# Altium schematic symbol library Miscellaneous Devices.SchLib: 236 symbols (part 1 of 2)
Pins are listed as number, name and electrical type; pins without a type are passive.

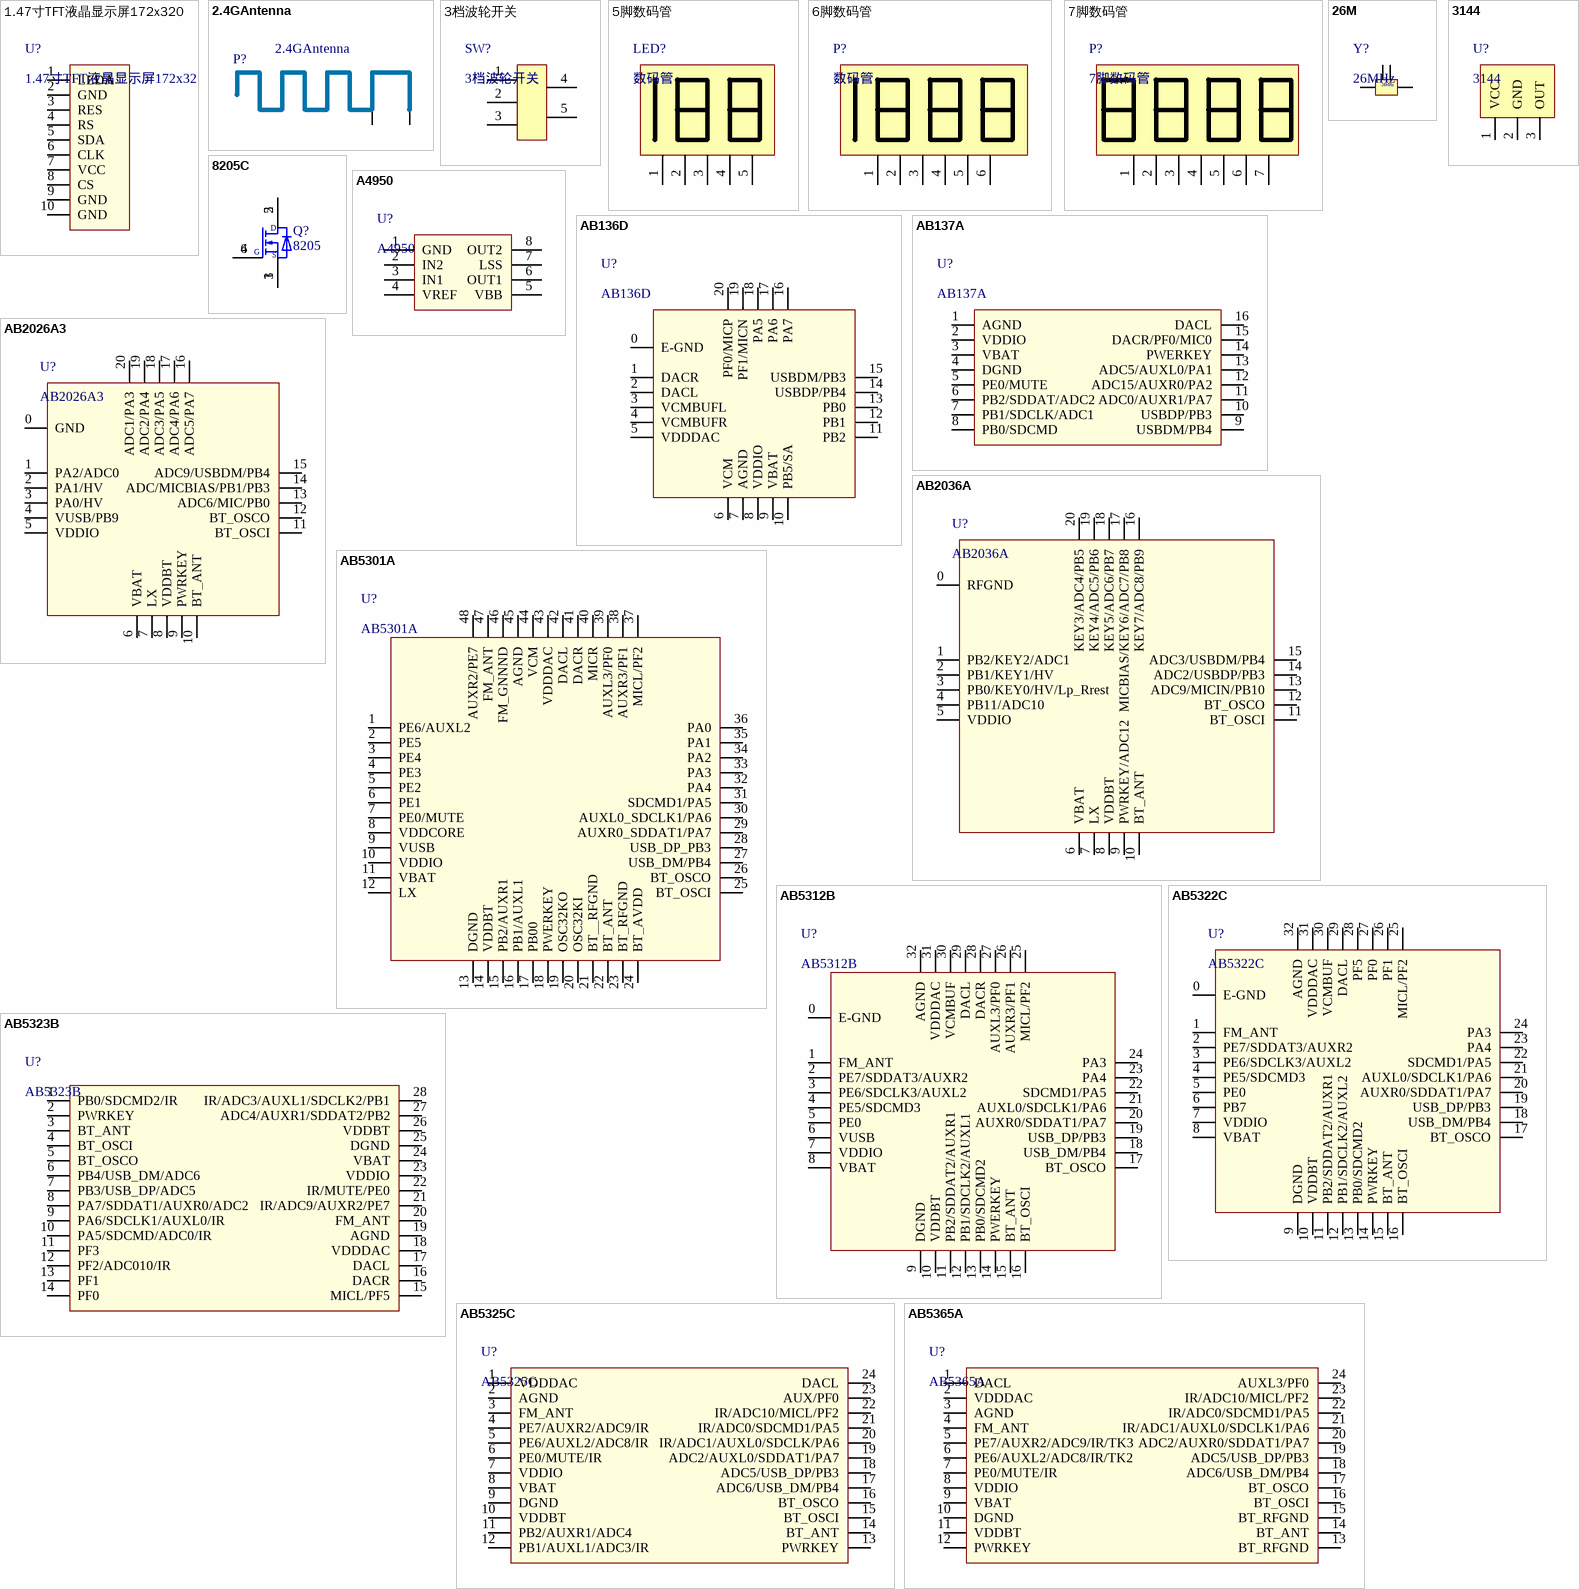
[diagram p0: symbols 1.47寸TFT液晶显示屏172x320 to AB5365A]

## 1.47寸TFT液晶显示屏172x320
designator U?
footprint 1.47寸TFT液晶显示屏172x320
pins: 1 LEDA, 2 GND, 3 RES, 4 RS, 5 SDA, 6 CLK, 7 VCC, 8 CS, 9 GND, 10 GND

## 2.4GAntenna
designator P?
footprint 2_4G_RF
footprint 2.4_ANT
footprint 2_4G_RF1
footprint 2_4G_RF_1
footprint 2.4_ANT_2
pins: 0, 1

## 3档波轮开关
designator SW?
footprint TM-2023
pins: 1, 2, 3, 4, 5

## 5脚数码管
designator LED?, comment 数码管
footprint YFTD2256SW-5
pins: 1, 2, 3, 4, 5

## 6脚数码管
designator P?, comment 数码管
footprint 6脚3PIN数码管
footprint 6PIN 数码管
pins: 1, 2, 3, 4, 5, 6

## 7脚数码管
designator P?
footprint 7PIN 数码管
pins: 1, 2, 3, 4, 5, 6, 7

## 26M
designator Y?, comment 26MHz
footprint SX-3225
footprint M49SSMD
footprint SMD-2520
pins: 1, 2, 3, 4

## 3144
designator U?
footprint TO-92UA
pins: 1 VCC, 2 GND, 3 OUT

## 8205C
designator Q?, comment 8205
footprint SOT23L-6P
pins: 1 S, 2 D, 3 S, 4 G, 5 D, 6 G

## A4950
designator U?
footprint SOP-8_150MIL
pins: 1 GND, 2 IN2, 3 IN1, 4 VREF, 5 VBB, 6 OUT1, 7 LSS, 8 OUT2

## AB136D
designator U?
footprint QFN20_3X3 (AB_BT)
pins: 0 E-GND, 1 DACR, 2 DACL, 3 VCMBUFL, 4 VCMBUFR, 5 VDDDAC, 6 VCM, 7 AGND, 8 VDDIO, 9 VBAT, 10 PB5/SA, 11 PB2, 12 PB1, 13 PB0, 14 USBDP/PB4, 15 USBDM/PB3, 16 PA7, 17 PA6, 18 PA5, 19 PF1/MICN, 20 PF0/MICP

## AB137A
designator U?
footprint SOP127P600X175-16N (SOP, 16-Leads, Body 9.90x3.90mm, Pitch 1.27mm, IPC Medium Density)
pins: 1 AGND, 2 VDDIO, 3 VBAT, 4 DGND, 5 PE0/MUTE, 6 PB2/SDDAT/ADC2, 7 PB1/SDCLK/ADC1, 8 PB0/SDCMD, 9 USBDM/PB4, 10 USBDP/PB3, 11 ADC0/AUXR1/PA7, 12 ADC15/AUXR0/PA2, 13 ADC5/AUXL0/PA1, 14 PWERKEY, 15 DACR/PF0/MIC0, 16 DACL

## AB2026A3
designator U?
footprint QFN20_3X3 (AB_BT)
pins: 0 GND, 1 PA2/ADC0, 2 PA1/HV, 3 PA0/HV, 4 VUSB/PB9, 5 VDDIO, 6 VBAT, 7 LX, 8 VDDBT, 9 PWRKEY, 10 BT_ANT, 11 BT_OSCI, 12 BT_OSCO, 13 ADC6/MIC/PB0, 14 ADC/MICBIAS/PB1/PB3, 15 ADC9/USBDM/PB4, 16 ADC5/PA7, 17 ADC4/PA6, 18 ADC3/PA5, 19 ADC2/PA4, 20 ADC1/PA3

## AB2036A
designator U?
footprint QFN20_3X3 (AB_BT)
pins: 0 RFGND, 1 PB2/KEY2/ADC1, 2 PB1/KEY1/HV, 3 PB0/KEY0/HV/Lp_Rrest, 4 PB11/ADC10, 5 VDDIO, 6 VBAT, 7 LX, 8 VDDBT, 9 PWRKEY/ADC12, 10 BT_ANT, 11 BT_OSCI, 12 BT_OSCO, 13 ADC9/MICIN/PB10, 14 ADC2/USBDP/PB3, 15 ADC3/USBDM/PB4, 16 KEY7/ADC8/PB9, 17 MICBIAS/KEY6/ADC7/PB8, 18 KEY5/ADC6/PB7, 19 KEY4/ADC5/PB6, 20 KEY3/ADC4/PB5

## AB5301A
designator U?
footprint LQFP48
pins: 1 PE6/AUXL2, 2 PE5, 3 PE4, 4 PE3, 5 PE2, 6 PE1, 7 PE0/MUTE, 8 VDDCORE, 9 VUSB, 10 VDDIO, 11 VBAT, 12 LX, 13 DGND, 14 VDDBT, 15 PB2/AUXR1, 16 PB1/AUXL1, 17 PB00, 18 PWERKEY, 19 OSC32KO, 20 OSC32KI, 21 BT__RFGND, 22 BT_ANT, 23 BT_RFGND, 24 BT_AVDD, 25 BT_OSCI, 26 BT_OSCO, 27 USB_DM/PB4, 28 USB_DP_PB3, 29 AUXR0_SDDAT1/PA7, 30 AUXL0_SDCLK1/PA6, 31 SDCMD1/PA5, 32 PA4, 33 PA3, 34 PA2, 35 PA1, 36 PA0, 37 MICL/PF2, 38 AUXR3/PF1, 39 AUXL3/PF0, 40 MICR, 41 DACR, 42 DACL, 43 VDDDAC, 44 VCM, 45 AGND, 46 FM_GNNND, 47 FM_ANT, 48 AUXR2/PE7

## AB5312B
designator U?
footprint QFN40P400X400X75_HS-33N (QFN, 32-Leads, Body 4.00x4.00mm, Pitch 0.40mm, Thermal Pad 2.80x2.80mm, IPC Medium Density)
pins: 0 E-GND, 1 FM_ANT, 2 PE7/SDDAT3/AUXR2, 3 PE6/SDCLK3/AUXL2, 4 PE5/SDCMD3, 5 PE0, 6 VUSB, 7 VDDIO, 8 VBAT, 9 DGND, 10 VDDBT, 11 PB2/SDDAT2/AUXR1, 12 PB1/SDCLK2/AUXL1, 13 PB0/SDCMD2, 14 PWERKEY, 15 BT_ANT, 16 BT_OSCI, 17 BT_OSCO, 18 USB_DM/PB4, 19 USB_DP/PB3, 20 AUXR0/SDDAT1/PA7, 21 AUXL0/SDCLK1/PA6, 22 SDCMD1/PA5, 23 PA4, 24 PA3, 25 MICL/PF2, 26 AUXR3/PF1, 27 AUXL3/PF0, 28 DACR, 29 DACL, 30 VCMBUF, 31 VDDDAC, 32 AGND

## AB5322C
designator U?
footprint QFN40P400X400X75_HS-33N (QFN, 32-Leads, Body 4.00x4.00mm, Pitch 0.40mm, Thermal Pad 2.80x2.80mm, IPC Medium Density)
pins: 0 E-GND, 1 FM_ANT, 2 PE7/SDDAT3/AUXR2, 3 PE6/SDCLK3/AUXL2, 4 PE5/SDCMD3, 5 PE0, 6 PB7, 7 VDDIO, 8 VBAT, 9 DGND, 10 VDDBT, 11 PB2/SDDAT2/AUXR1, 12 PB1/SDCLK2/AUXL2, 13 PB0/SDCMD2, 14 PWRKEY, 15 BT_ANT, 16 BT_OSCI, 17 BT_OSCO, 18 USB_DM/PB4, 19 USB_DP/PB3, 20 AUXR0/SDDAT1/PA7, 21 AUXL0/SDCLK1/PA6, 22 SDCMD1/PA5, 23 PA4, 24 PA3, 25 MICL/PF2, 26 PF1, 27 PF0, 28 PF5, 29 DACL, 30 VCMBUF, 31 VDDDAC, 32 AGND

## AB5323B
designator U?
footprint SSOP28L
pins: 1 PB0/SDCMD2/IR, 2 PWRKEY, 3 BT_ANT, 4 BT_OSCI, 5 BT_OSCO, 6 PB4/USB_DM/ADC6, 7 PB3/USB_DP/ADC5, 8 PA7/SDDAT1/AUXR0/ADC2, 9 PA6/SDCLK1/AUXL0/IR, 10 PA5/SDCMD/ADC0/IR, 11 PF3, 12 PF2/ADC010/IR, 13 PF1, 14 PF0, 15 MICL/PF5, 16 DACR, 17 DACL, 18 VDDDAC, 19 AGND, 20 FM_ANT, 21 IR/ADC9/AUXR2/PE7, 22 IR/MUTE/PE0, 23 VDDIO, 24 VBAT, 25 DGND, 26 VDDBT, 27 ADC4/AUXR1/SDDAT2/PB2, 28 IR/ADC3/AUXL1/SDCLK2/PB1

## AB5325C
designator U?
footprint SSOP24-150mil
pins: 1 VDDDAC, 2 AGND, 3 FM_ANT, 4 PE7/AUXR2/ADC9/IR, 5 PE6/AUXL2/ADC8/IR, 6 PE0/MUTE/IR, 7 VDDIO, 8 VBAT, 9 DGND, 10 VDDBT, 11 PB2/AUXR1/ADC4, 12 PB1/AUXL1/ADC3/IR, 13 PWRKEY, 14 BT_ANT, 15 BT_OSCI, 16 BT_OSCO, 17 ADC6/USB_DM/PB4, 18 ADC5/USB_DP/PB3, 19 ADC2/AUXL0/SDDAT1/PA7, 20 IR/ADC1/AUXL0/SDCLK/PA6, 21 IR/ADC0/SDCMD1/PA5, 22 IR/ADC10/MICL/PF2, 23 AUX/PF0, 24 DACL

## AB5365A
designator U?
footprint SSOP24L
pins: 1 DACL, 2 VDDDAC, 3 AGND, 4 FM_ANT, 5 PE7/AUXR2/ADC9/IR/TK3, 6 PE6/AUXL2/ADC8/IR/TK2, 7 PE0/MUTE/IR, 8 VDDIO, 9 VBAT, 10 DGND, 11 VDDBT, 12 PWRKEY, 13 BT_RFGND, 14 BT_ANT, 15 BT_RFGND, 16 BT_OSCI, 17 BT_OSCO, 18 ADC6/USB_DM/PB4, 19 ADC5/USB_DP/PB3, 20 ADC2/AUXR0/SDDAT1/PA7, 21 IR/ADC1/AUXL0/SDCLK1/PA6, 22 IR/ADC0/SDCMD1/PA5, 23 IR/ADC10/MICL/PF2, 24 AUXL3/PF0

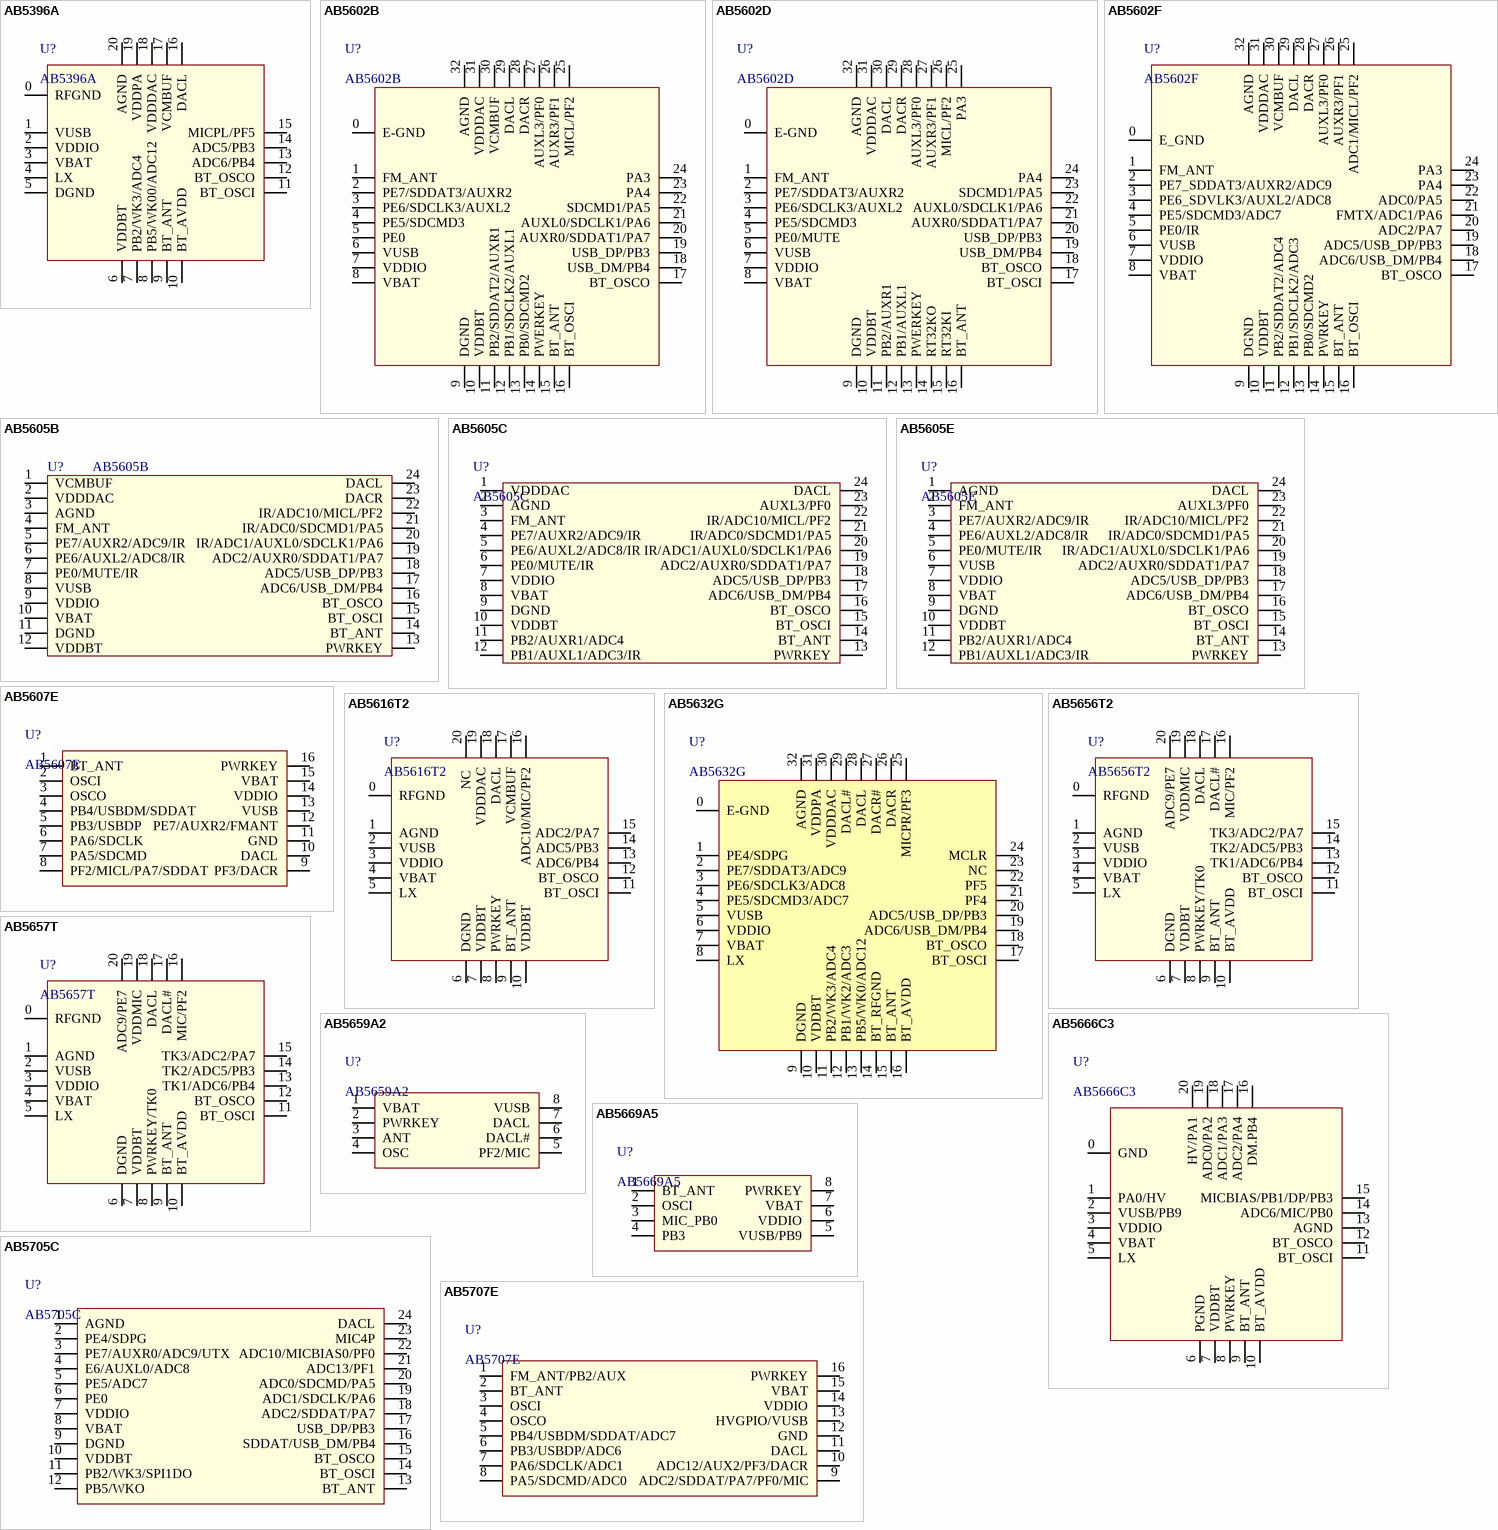
[diagram p1: symbols AB5396A to AB5707E]

## AB5396A
designator U?
footprint QFN20_3X3 (AB_BT)
pins: 0 RFGND, 1 VUSB, 2 VDDIO, 3 VBAT, 4 LX, 5 DGND, 6 VDDBT, 7 PB2/WK3/ADC4, 8 PB5/WK00/ADC12, 9 BT_ANT, 10 BT_AVDD, 11 BT_OSCI, 12 BT_OSCO, 13 ADC6/PB4, 14 ADC5/PB3, 15 MICPL/PF5, 16 DACL, 17 VCMBUF, 18 VDDDAC, 19 VDDPA, 20 AGND

## AB5602B
designator U?
footprint QFN40P400X400X75_HS-33N (QFN, 32-Leads, Body 4.00x4.00mm, Pitch 0.40mm, Thermal Pad 2.80x2.80mm, IPC Medium Density)
pins: 0 E-GND, 1 FM_ANT, 2 PE7/SDDAT3/AUXR2, 3 PE6/SDCLK3/AUXL2, 4 PE5/SDCMD3, 5 PE0, 6 VUSB, 7 VDDIO, 8 VBAT, 9 DGND, 10 VDDBT, 11 PB2/SDDAT2/AUXR1, 12 PB1/SDCLK2/AUXL1, 13 PB0/SDCMD2, 14 PWERKEY, 15 BT_ANT, 16 BT_OSCI, 17 BT_OSCO, 18 USB_DM/PB4, 19 USB_DP/PB3, 20 AUXR0/SDDAT1/PA7, 21 AUXL0/SDCLK1/PA6, 22 SDCMD1/PA5, 23 PA4, 24 PA3, 25 MICL/PF2, 26 AUXR3/PF1, 27 AUXL3/PF0, 28 DACR, 29 DACL, 30 VCMBUF, 31 VDDDAC, 32 AGND

## AB5602D
designator U?
footprint QFN40P400X400X75_HS-33N (QFN, 32-Leads, Body 4.00x4.00mm, Pitch 0.40mm, Thermal Pad 2.80x2.80mm, IPC Medium Density)
pins: 0 E-GND, 1 FM_ANT, 2 PE7/SDDAT3/AUXR2, 3 PE6/SDCLK3/AUXL2, 4 PE5/SDCMD3, 5 PE0/MUTE, 6 VUSB, 7 VDDIO, 8 VBAT, 9 DGND, 10 VDDBT, 11 PB2/AUXR1, 12 PB1/AUXL1, 13 PWERKEY, 14 RT32KO, 15 RT32KI, 16 BT_ANT, 17 BT_OSCI, 18 BT_OSCO, 19 USB_DM/PB4, 20 USB_DP/PB3, 21 AUXR0/SDDAT1/PA7, 22 AUXL0/SDCLK1/PA6, 23 SDCMD1/PA5, 24 PA4, 25 PA3, 26 MICL/PF2, 27 AUXR3/PF1, 28 AUXL3/PF0, 29 DACR, 30 DACL, 31 VDDDAC, 32 AGND

## AB5602F
designator U?
footprint QFN40P400X400X75_HS-33N (QFN, 32-Leads, Body 4.00x4.00mm, Pitch 0.40mm, Thermal Pad 2.80x2.80mm, IPC Medium Density)
pins: 0 E_GND, 1 FM_ANT, 2 PE7_SDDAT3/AUXR2/ADC9, 3 PE6_SDVLK3/AUXL2/ADC8, 4 PE5/SDCMD3/ADC7, 5 PE0/IR, 6 VUSB, 7 VDDIO, 8 VBAT, 9 DGND, 10 VDDBT, 11 PB2/SDDAT2/ADC4, 12 PB1/SDCLK2/ADC3, 13 PB0/SDCMD2, 14 PWRKEY, 15 BT_ANT, 16 BT_OSCI, 17 BT_OSCO, 18 ADC6/USB_DM/PB4, 19 ADC5/USB_DP/PB3, 20 ADC2/PA7, 21 FMTX/ADC1/PA6, 22 ADC0/PA5, 23 PA4, 24 PA3, 25 ADC1/MICL/PF2, 26 AUXR3/PF1, 27 AUXL3/PF0, 28 DACR, 29 DACL, 30 VCMBUF, 31 VDDDAC, 32 AGND

## AB5605B
designator U?
footprint SSOP24-150mil
pins: 1 VCMBUF, 2 VDDDAC, 3 AGND, 4 FM_ANT, 5 PE7/AUXR2/ADC9/IR, 6 PE6/AUXL2/ADC8/IR, 7 PE0/MUTE/IR, 8 VUSB, 9 VDDIO, 10 VBAT, 11 DGND, 12 VDDBT, 13 PWRKEY, 14 BT_ANT, 15 BT_OSCI, 16 BT_OSCO, 17 ADC6/USB_DM/PB4, 18 ADC5/USB_DP/PB3, 19 ADC2/AUXR0/SDDAT1/PA7, 20 IR/ADC1/AUXL0/SDCLK1/PA6, 21 IR/ADC0/SDCMD1/PA5, 22 IR/ADC10/MICL/PF2, 23 DACR, 24 DACL

## AB5605C
designator U?
footprint SSOP24-150mil
pins: 1 VDDDAC, 2 AGND, 3 FM_ANT, 4 PE7/AUXR2/ADC9/IR, 5 PE6/AUXL2/ADC8/IR, 6 PE0/MUTE/IR, 7 VDDIO, 8 VBAT, 9 DGND, 10 VDDBT, 11 PB2/AUXR1/ADC4, 12 PB1/AUXL1/ADC3/IR, 13 PWRKEY, 14 BT_ANT, 15 BT_OSCI, 16 BT_OSCO, 17 ADC6/USB_DM/PB4, 18 ADC5/USB_DP/PB3, 19 ADC2/AUXR0/SDDAT1/PA7, 20 IR/ADC1/AUXL0/SDCLK1/PA6, 21 IR/ADC0/SDCMD1/PA5, 22 IR/ADC10/MICL/PF2, 23 AUXL3/PF0, 24 DACL

## AB5605E
designator U?
footprint SSOP24-150mil
pins: 1 AGND, 2 FM_ANT, 3 PE7/AUXR2/ADC9/IR, 4 PE6/AUXL2/ADC8/IR, 5 PE0/MUTE/IR, 6 VUSB, 7 VDDIO, 8 VBAT, 9 DGND, 10 VDDBT, 11 PB2/AUXR1/ADC4, 12 PB1/AUXL1/ADC3/IR, 13 PWRKEY, 14 BT_ANT, 15 BT_OSCI, 16 BT_OSCO, 17 ADC6/USB_DM/PB4, 18 ADC5/USB_DP/PB3, 19 ADC2/AUXR0/SDDAT1/PA7, 20 IR/ADC1/AUXL0/SDCLK1/PA6, 21 IR/ADC0/SDCMD1/PA5, 22 IR/ADC10/MICL/PF2, 23 AUXL3/PF0, 24 DACL

## AB5607E
designator U?
footprint SOP127P600X175-16N (SOP, 16-Leads, Body 9.90x3.90mm, Pitch 1.27mm, IPC Medium Density)
pins: 1 BT_ANT, 2 OSCI, 3 OSCO, 4 PB4/USBDM/SDDAT, 5 PB3/USBDP, 6 PA6/SDCLK, 7 PA5/SDCMD, 8 PF2/MICL/PA7/SDDAT, 9 PF3/DACR, 10 DACL, 11 GND, 12 PE7/AUXR2/FMANT, 13 VUSB, 14 VDDIO, 15 VBAT, 16 PWRKEY

## AB5616T2
designator U?
footprint QFN20_3X3 (AB_BT)
pins: 0 RFGND, 1 AGND, 2 VUSB, 3 VDDIO, 4 VBAT, 5 LX, 6 DGND, 7 VDDBT, 8 PWRKEY, 9 BT_ANT, 10 VDDBT, 11 BT_OSCI, 12 BT_OSCO, 13 ADC6/PB4, 14 ADC5/PB3, 15 ADC2/PA7, 16 ADC10/MIC/PF2, 17 VCMBUF, 18 DACL, 19 VDDDAC, 20 NC 

## AB5632G
designator U?
footprint QFN40P400X400X75_HS-33N (QFN, 32-Leads, Body 4.00x4.00mm, Pitch 0.40mm, Thermal Pad 2.80x2.80mm, IPC Medium Density)
pins: 0 E-GND, 1 PE4/SDPG, 2 PE7/SDDAT3/ADC9, 3 PE6/SDCLK3/ADC8, 4 PE5/SDCMD3/ADC7, 5 VUSB, 6 VDDIO, 7 VBAT, 8 LX, 9 DGND, 10 VDDBT, 11 PB2/WK3/ADC4, 12 PB1/WK2/ADC3, 13 PB5/WK0/ADC12, 14 BT_RFGND, 15 BT_ANT, 16 BT_AVDD, 17 BT_OSCI, 18 BT_OSCO, 19 ADC6/USB_DM/PB4, 20 ADC5/USB_DP/PB3, 21 PF4, 22 PF5, 23 NC, 24 MCLR, 25 MICPR/PF3, 26 DACR, 27 DACR#, 28 DACL, 29 DACL#, 30 VDDDAC, 31 VDDPA, 32 AGND

## AB5656T2
designator U?
footprint QFN20_3X3 (AB_BT)
pins: 0 RFGND, 1 AGND, 2 VUSB, 3 VDDIO, 4 VBAT, 5 LX, 6 DGND, 7 VDDBT, 8 PWRKEY/TK0, 9 BT_ANT, 10 BT_AVDD, 11 BT_OSCI, 12 BT_OSCO, 13 TK1/ADC6/PB4, 14 TK2/ADC5/PB3, 15 TK3/ADC2/PA7, 16 MIC/PF2, 17 DACL#, 18 DACL, 19 VDDMIC, 20 ADC9/PE7

## AB5657T
designator U?
footprint QFN20_3X3 (AB_BT)
pins: 0 RFGND, 1 AGND, 2 VUSB, 3 VDDIO, 4 VBAT, 5 LX, 6 DGND, 7 VDDBT, 8 PWRKEY/TK0, 9 BT_ANT, 10 BT_AVDD, 11 BT_OSCI, 12 BT_OSCO, 13 TK1/ADC6/PB4, 14 TK2/ADC5/PB3, 15 TK3/ADC2/PA7, 16 MIC/PF2, 17 DACL#, 18 DACL, 19 VDDMIC, 20 ADC9/PE7

## AB5659A2
designator U?
footprint ESOP8L
pins: 1 VBAT, 2 PWRKEY, 3 ANT, 4 OSC, 5 PF2/MIC, 6 DACL#, 7 DACL, 8 VUSB

## AB5666C3
designator U?
footprint QFN20_3X3 (AB_BT)
pins: 0 GND, 1 PA0/HV, 2 VUSB/PB9, 3 VDDIO, 4 VBAT, 5 LX, 6 PGND, 7 VDDBT, 8 PWRKEY, 9 BT_ANT, 10 BT_AVDD, 11 BT_OSCI, 12 BT_OSCO, 13 AGND, 14 ADC6/MIC/PB0, 15 MICBIAS/PB1/DP/PB3, 16 DM.PB4, 17 ADC2/PA4, 18 ADC1/PA3, 19 ADC0/PA2, 20 HV/PA1

## AB5669A5
designator U?
footprint ESOP8L
pins: 1 BT_ANT, 2 OSCI, 3 MIC_PB0, 4 PB3, 5 VUSB/PB9, 6 VDDIO, 7 VBAT, 8 PWRKEY

## AB5705C
designator U?
footprint SSOP24-150mil
pins: 1 AGND, 2 PE4/SDPG, 3 PE7/AUXR0/ADC9/UTX, 4 E6/AUXL0/ADC8, 5 PE5/ADC7, 6 PE0, 7 VDDIO, 8 VBAT, 9 DGND, 10 VDDBT, 11 PB2/WK3/SPI1DO, 12 PB5/WKO, 13 BT_ANT, 14 BT_OSCI, 15 BT_OSCO, 16 SDDAT/USB_DM/PB4, 17 USB_DP/PB3, 18 ADC2/SDDAT/PA7, 19 ADC1/SDCLK/PA6, 20 ADC0/SDCMD/PA5, 21 ADC13/PF1, 22 ADC10/MICBIAS0/PF0, 23 MIC4P, 24 DACL

## AB5707E
designator U?
footprint SOP127P600X175-16N (SOP, 16-Leads, Body 9.90x3.90mm, Pitch 1.27mm, IPC Medium Density)
pins: 1 FM_ANT/PB2/AUX, 2 BT_ANT, 3 OSCI, 4 OSCO, 5 PB4/USBDM/SDDAT/ADC7, 6 PB3/USBDP/ADC6, 7 PA6/SDCLK/ADC1, 8 PA5/SDCMD/ADC0, 9 ADC2/SDDAT/PA7/PF0/MIC, 10 ADC12/AUX2/PF3/DACR, 11 DACL, 12 GND, 13 HVGPIO/VUSB, 14 VDDIO, 15 VBAT, 16 PWRKEY

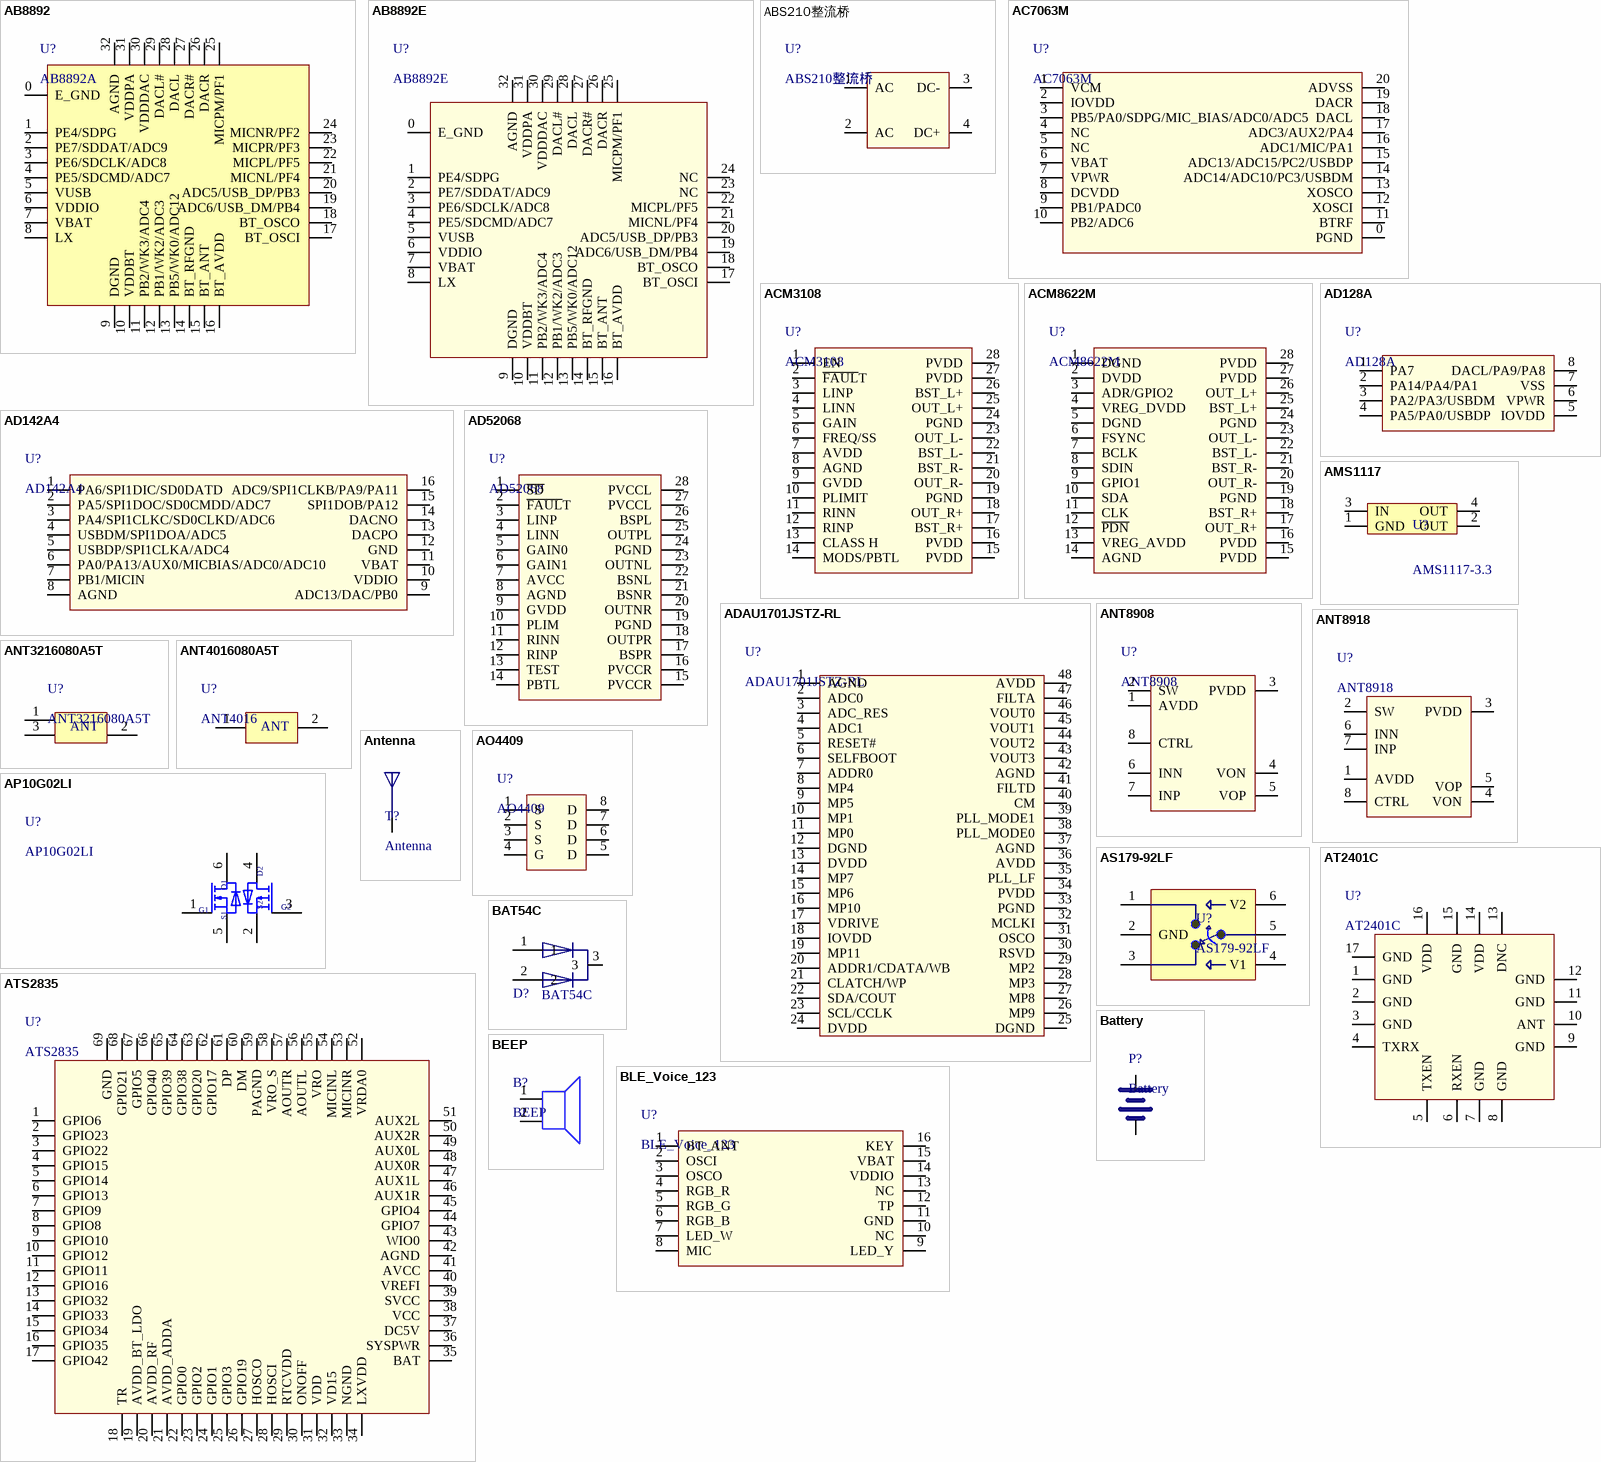
[diagram p2: symbols AB8892 to BLE_Voice_123]

## AB8892
designator U?, comment AB8892A
footprint QFN40P400X400X75_HS-33N (QFN, 32-Leads, Body 4.00x4.00mm, Pitch 0.40mm, Thermal Pad 2.80x2.80mm, IPC Medium Density)
pins: 0 E_GND, 1 PE4/SDPG, 2 PE7/SDDAT/ADC9, 3 PE6/SDCLK/ADC8, 4 PE5/SDCMD/ADC7, 5 VUSB, 6 VDDIO, 7 VBAT, 8 LX, 9 DGND, 10 VDDBT, 11 PB2/WK3/ADC4, 12 PB1/WK2/ADC3, 13 PB5/WK0/ADC12, 14 BT_RFGND, 15 BT_ANT, 16 BT_AVDD, 17 BT_OSCI, 18 BT_OSCO, 19 ADC6/USB_DM/PB4, 20 ADC5/USB_DP/PB3, 21 MICNL/PF4, 22 MICPL/PF5, 23 MICPR/PF3, 24 MICNR/PF2, 25 MICPM/PF1, 26 DACR, 27 DACR#, 28 DACL, 29 DACL#, 30 VDDDAC, 31 VDDPA, 32 AGND

## AB8892E
designator U?
footprint QFN40P400X400X75_HS-33N (QFN, 32-Leads, Body 4.00x4.00mm, Pitch 0.40mm, Thermal Pad 2.80x2.80mm, IPC Medium Density)
pins: 0 E_GND, 1 PE4/SDPG, 2 PE7/SDDAT/ADC9, 3 PE6/SDCLK/ADC8, 4 PE5/SDCMD/ADC7, 5 VUSB, 6 VDDIO, 7 VBAT, 8 LX, 9 DGND, 10 VDDBT, 11 PB2/WK3/ADC4, 12 PB1/WK2/ADC3, 13 PB5/WK0/ADC12, 14 BT_RFGND, 15 BT_ANT, 16 BT_AVDD, 17 BT_OSCI, 18 BT_OSCO, 19 ADC6/USB_DM/PB4, 20 ADC5/USB_DP/PB3, 21 MICNL/PF4, 22 MICPL/PF5, 23 NC, 24 NC, 25 MICPM/PF1, 26 DACR, 27 DACR#, 28 DACL, 29 DACL#, 30 VDDDAC, 31 VDDPA, 32 AGND

## ABS210整流桥
designator U?
footprint ABS210-SOP4
pins: 1 AC, 2 AC, 3 DC-, 4 DC+

## AC7063M
designator U?
footprint QFN20_3X3 (AB_BT)
pins: 0 PGND, 1 VCM, 2 IOVDD, 3 PB5/PA0/SDPG/MIC_BIAS/ADC0/ADC5, 4 NC, 5 NC, 6 VBAT, 7 VPWR, 8 DCVDD, 9 PB1/PADC0, 10 PB2/ADC6, 11 BTRF, 12 XOSCI, 13 XOSCO, 14 ADC14/ADC10/PC3/USBDM, 15 ADC13/ADC15/PC2/USBDP, 16 ADC1/MIC/PA1, 17 ADC3/AUX2/PA4, 18 DACL, 19 DACR, 20 ADVSS

## ACM3108
designator U?
footprint TSOP65P640X110_HS-29N (TSOP, 28-Leads, Body 9.70x4.40mm, Pitch 0.65mm, Thermal Pad 3.91x2.90mm, IPC Medium Density)
pins: 1 EN, 2 ~{FAUL}T, 3 LINP, 4 LINN, 5 GAIN, 6 FREQ/SS, 7 AVDD, 8 AGND, 9 GVDD, 10 PLIMIT, 11 RINN, 12 RINP, 13 CLASS H, 14 MODS/PBTL, 15 PVDD, 16 PVDD, 17 BST_R+, 18 OUT_R+, 19 PGND, 20 OUT_R-, 21 BST_R-, 22 BST_L-, 23 OUT_L-, 24 PGND, 25 OUT_L+, 26 BST_L+, 27 PVDD, 28 PVDD

## ACM8622M
designator U?
footprint TSOP65P640X110_HS-29N (TSOP, 28-Leads, Body 9.70x4.40mm, Pitch 0.65mm, Thermal Pad 3.91x2.90mm, IPC Medium Density)
pins: 1 DGND, 2 DVDD, 3 ADR/GPIO2, 4 VREG_DVDD, 5 DGND, 6 FSYNC, 7 BCLK, 8 SDIN, 9 GPIO1, 10 SDA, 11 CLK, 12 ~{PDN}, 13 VREG_AVDD, 14 AGND, 15 PVDD, 16 PVDD, 17 OUT_R+, 18 BST_R+, 19 PGND, 20 OUT_R-, 21 BST_R-, 22 BST_L-, 23 OUT_L-, 24 PGND, 25 BST_L+, 26 OUT_L+, 27 PVDD, 28 PVDD

## AD128A
designator U?
footprint SOP-8_150MIL
pins: 1 PA7, 2 PA14/PA4/PA1, 3 PA2/PA3/USBDM, 4 PA5/PA0/USBDP, 5 IOVDD, 6 VPWR, 7 VSS, 8 DACL/PA9/PA8

## AD142A4
designator U?
footprint SOP127P600X175-16N (SOP, 16-Leads, Body 9.90x3.90mm, Pitch 1.27mm, IPC Medium Density)
footprint OTS16-1.27Burn-in Socket
pins: 1 PA6/SPI1DIC/SD0DATD, 2 PA5/SPI1DOC/SD0CMDD/ADC7, 3 PA4/SPI1CLKC/SD0CLKD/ADC6, 4 USBDM/SPI1DOA/ADC5, 5 USBDP/SPI1CLKA/ADC4, 6 PA0/PA13/AUX0/MICBIAS/ADC0/ADC10, 7 PB1/MICIN, 8 AGND, 9 ADC13/DAC/PB0, 10 VDDIO, 11 VBAT, 12 GND, 13 DACPO, 14 DACNO, 15 SPI1DOB/PA12, 16 ADC9/SPI1CLKB/PA9/PA11

## AD52068
designator U?
footprint TSOP65P640X120_HS-29N (TSOP, 28-Leads, Body 9.70x4.40mm, Pitch 0.65mm, Thermal Pad 5.25x2.98mm, IPC Medium Density)
pins: 1 ~{SD}, 2 ~{FAUL}T, 3 LINP, 4 LINN, 5 GAIN0, 6 GAIN1, 7 AVCC, 8 AGND, 9 GVDD, 10 PLIM, 11 RINN, 12 RINP, 13 TEST, 14 PBTL, 15 PVCCR, 16 PVCCR, 17 BSPR, 18 OUTPR, 19 PGND, 20 OUTNR, 21 BSNR, 22 BSNL, 23 OUTNL, 24 PGND, 25 OUTPL, 26 BSPL, 27 PVCCL, 28 PVCCL

## ADAU1701JSTZ-RL
designator U?
footprint LQFP48
pins: 1 AGND, 2 ADC0, 3 ADC_RES, 4 ADC1, 5 RESET#, 6 SELFBOOT, 7 ADDR0, 8 MP4, 9 MP5, 10 MP1, 11 MP0, 12 DGND, 13 DVDD, 14 MP7, 15 MP6, 16 MP10, 17 VDRIVE, 18 IOVDD, 19 MP11, 20 ADDR1/CDATA/WB, 21 CLATCH/WP, 22 SDA/COUT, 23 SCL/CCLK, 24 DVDD, 25 DGND, 26 MP9, 27 MP8, 28 MP3, 29 MP2, 30 RSVD, 31 OSCO, 32 MCLKI, 33 PGND, 34 PVDD, 35 PLL_LF, 36 AVDD, 37 AGND, 38 PLL_MODE0, 39 PLL_MODE1, 40 CM, 41 FILTD, 42 AGND, 43 VOUT3, 44 VOUT2, 45 VOUT1, 46 VOUT0, 47 FILTA, 48 AVDD

## AMS1117
designator U?, comment AMS1117-3.3
footprint SOT-223
pins: 1 GND, 2 OUT, 3 IN, 4 OUT

## ANT8908
designator U?
footprint ESOP8L
pins: 1 AVDD, 2 SW, 3 PVDD, 4 VON, 5 VOP, 6 INN, 7 INP, 8 CTRL

## ANT8918
designator U?
footprint ESOP8L
pins: 1 AVDD, 2 SW, 3 PVDD, 4 VON, 5 VOP, 6 INN, 7 INP, 8 CTRL

## ANT3216080A5T
designator U?
footprint ANT_3P_2012_2.05X1.23X0.45MM
pins: 1, 2, 3
text: ANT

## ANT4016080A5T
designator U?, comment ANT4016
footprint 4018Chip Antenna
pins: 1, 2
text: ANT

## Antenna
designator T?
footprint EIPEX3*3*1.25MM
pins: 1

## AO4409
designator U?
footprint SOP-8_150MIL
pins: 1 S, 2 S, 3 S, 4 G, 5 D, 6 D, 7 D, 8 D

## AP10G02LI
designator U?
footprint SOT23L-6P
pins: 1 G1, 2 S2, 3 G, 4 D, 5 S, 6 D
text: D1; D2; S1; G2

## AS179-92LF
designator U?
footprint SOT65P220X95-6N
pins: 1, 2 GND, 3, 4 V1, 5, 6 V2

## AT2401C
designator U?
footprint QFN50P300X300X75_HS-17N (QFN, 16-Leads, Body 3.00x3.00mm, Pitch 0.50mm, Thermal Pad 1.70x1.70mm, IPC Medium Density)
pins: 1 GND, 2 GND, 3 GND, 4 TXRX, 5 TXEN, 6 RXEN, 7 GND, 8 GND, 9 GND, 10 ANT, 11 GND, 12 GND, 13 DNC, 14 VDD, 15 GND, 16 VDD, 17 GND

## ATS2835
designator U?
footprint QFN40P800X800X85_HS-69N (QFN, 68-Leads, Body 8.00x8.00mm, Pitch 0.40mm, Thermal Pad 5.39x5.39mm, IPC Medium Density)
pins: 1 GPIO6, 2 GPIO23, 3 GPIO22, 4 GPIO15, 5 GPIO14, 6 GPIO13, 7 GPIO9, 8 GPIO8, 9 GPIO10, 10 GPIO12, 11 GPIO11, 12 GPIO16, 13 GPIO32, 14 GPIO33, 15 GPIO34, 16 GPIO35, 17 GPIO42, 18 TR, 19 AVDD_BT_LDO, 20 AVDD_RF, 21 AVDD_ADDA, 22 GPIO0, 23 GPIO2, 24 GPIO1, 25 GPIO3, 26 GPIO19, 27 HOSCO, 28 HOSCI, 29 RTCVDD, 30 ONOFF, 31 VDD, 32 VD15, 33 NGND, 34 LXVDD, 35 BAT, 36 SYSPWR, 37 DC5V, 38 VCC, 39 SVCC, 40 VREFI, 41 AVCC, 42 AGND, 43 WIO0, 44 GPIO7, 45 GPIO4, 46 AUX1R, 47 AUX1L, 48 AUX0R, 49 AUX0L, 50 AUX2R, 51 AUX2L, 52 VRDA0, 53 MICINR, 54 MICINL, 55 VRO, 56 AOUTL, 57 AOUTR, 58 VRO_S, 59 PAGND, 60 DM, 61 DP, 62 GPIO17, 63 GPIO20, 64 GPIO38, 65 GPIO39, 66 GPIO40, 67 GPIO5, 68 GPIO21, 69 GND

## BAT54C
designator D?
footprint SOT-23
pins: 1, 2, 3

## Battery
designator P?
footprint CR1220
footprint CR2032
pins: 1, 2

## BEEP
designator B?
footprint BEEP(R7H5)
footprint BEEP(4R5H6)
pins: 1, 2

## BLE_Voice_123
designator U?
footprint SOP127P600X175-16N (SOP, 16-Leads, Body 9.90x3.90mm, Pitch 1.27mm, IPC Medium Density)
pins: 1 BT_ANT, 2 OSCI, 3 OSCO, 4 RGB_R, 5 RGB_G, 6 RGB_B, 7 LED_W, 8 MIC, 9 LED_Y, 10 NC, 11 GND, 12 TP, 13 NC, 14 VDDIO, 15 VBAT, 16 KEY

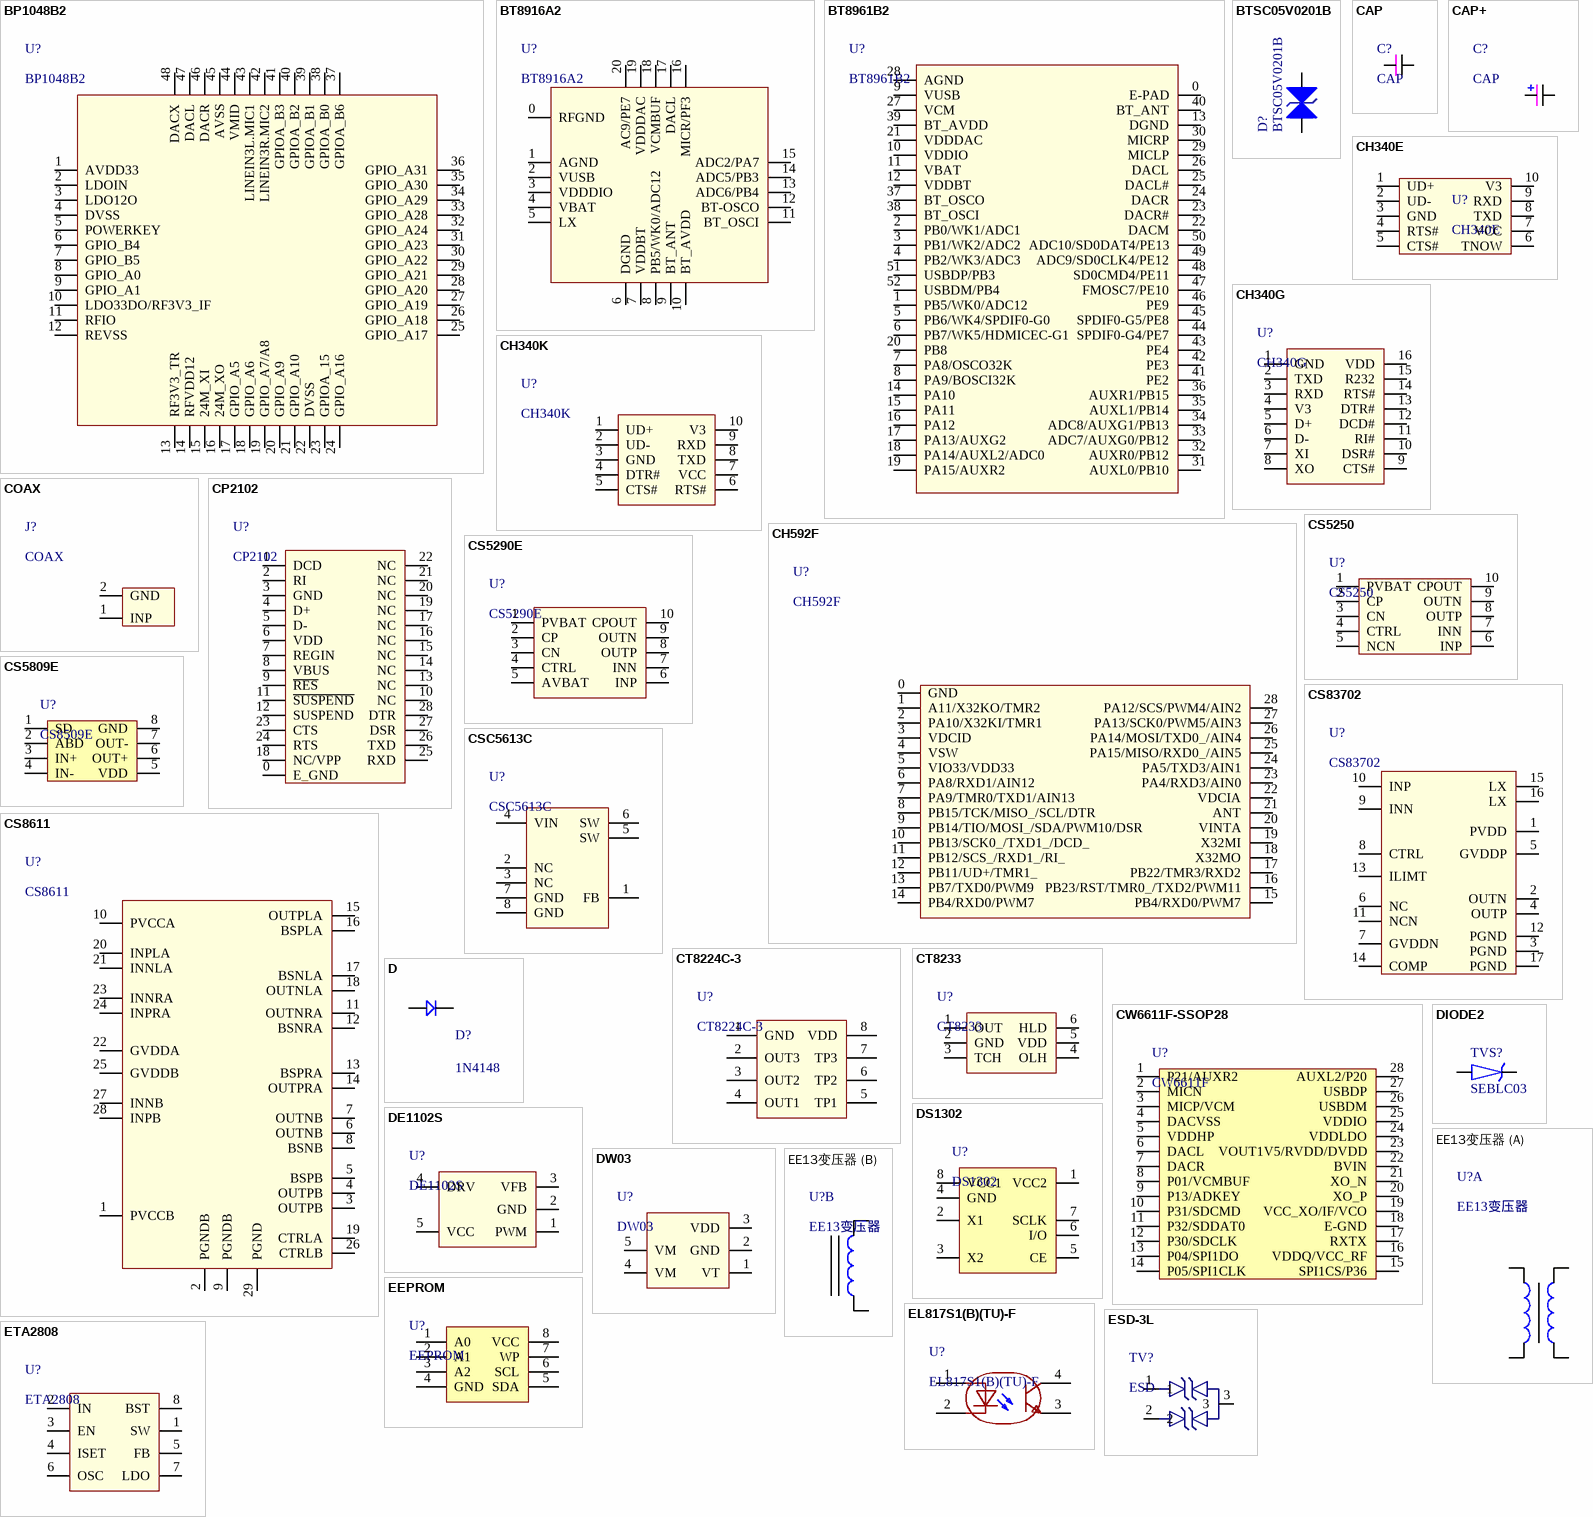
[diagram p3: symbols BP1048B2 to ETA2808]

## BP1048B2
designator U?
footprint LQFP48
pins: 1 AVDD33, 2 LDOIN, 3 LDO12O, 4 DVSS, 5 POWERKEY, 6 GPIO_B4, 7 GPIO_B5, 8 GPIO_A0, 9 GPIO_A1, 10 LDO33DO/RF3V3_IF, 11 RFIO, 12 REVSS, 13 RF3V3_TR, 14 RFVDD12, 15 24M_XI, 16 24M_XO, 17 GPIO_A5, 18 GPIO_A6, 19 GPIO_A7/A8, 20 GPIO_A9, 21 GPIO_A10, 22 DVSS, 23 GPIOA_15, 24 GPIO_A16, 25 GPIO_A17, 26 GPIO_A18, 27 GPIO_A19, 28 GPIO_A20, 29 GPIO_A21, 30 GPIO_A22, 31 GPIO_A23, 32 GPIO_A24, 33 GPIO_A28, 34 GPIO_A29, 35 GPIO_A30, 36 GPIO_A31, 37 GPIOA_B6, 38 GPIOA_B0, 39 GPIOA_B1, 40 GPIOA_B2, 41 GPIOA_B3, 42 LINEIN3R.MIC2, 43 LINEIN3L.MIC1, 44 VMID, 45 AVSS, 46 DACR, 47 DACL, 48 DACX

## BT8916A2
designator U?
footprint QFN20_3X3 (AB_BT)
pins: 0 RFGND, 1 AGND, 2 VUSB, 3 VDDDIO, 4 VBAT, 5 LX, 6 DGND, 7 VDDBT, 8 PB5/WK0/ADC12, 9 BT_ANT, 10 BT_AVDD, 11 BT_OSCI, 12 BT-OSCO, 13 ADC6/PB4, 14 ADC5/PB3, 15 ADC2/PA7, 16 MICR/PF3, 17 DACL, 18 VCMBUF, 19 VDDDAC, 20 AC9/PE7

## BT8961B2
designator U?
footprint QFN40P600X600X75_HS-53N (QFN, 52-Leads, Body 6.00x6.00mm, Pitch 0.40mm, Thermal Pad 4.50x4.50mm, IPC Medium Density)
pins: 0 E-PAD, 1 PB5/WK0/ADC12, 2 PB0/WK1/ADC1, 3 PB1/WK2/ADC2, 4 PB2/WK3/ADC3, 5 PB6/WK4/SPDIF0-G0, 6 PB7/WK5/HDMICEC-G1, 7 PA8/OSCO32K, 8 PA9/BOSCI32K, 9 VUSB, 10 VDDIO, 11 VBAT, 12 VDDBT, 13 DGND, 14 PA10, 15 PA11, 16 PA12, 17 PA13/AUXG2, 18 PA14/AUXL2/ADC0, 19 PA15/AUXR2, 20 PB8, 21 VDDDAC, 22 DACM, 23 DACR#, 24 DACR, 25 DACL#, 26 DACL, 27 VCM, 28 AGND, 29 MICLP, 30 MICRP, 31 AUXL0/PB10, 32 AUXR0/PB12, 33 ADC7/AUXG0/PB12, 34 ADC8/AUXG1/PB13, 35 AUXL1/PB14, 36 AUXR1/PB15, 37 BT_OSCO, 38 BT_OSCI, 39 BT_AVDD, 40 BT_ANT, 41 PE2, 42 PE3, 43 PE4, 44 SPDIF0-G4/PE7, 45 SPDIF0-G5/PE8, 46 PE9, 47 FMOSC7/PE10, 48 SD0CMD4/PE11, 49 ADC9/SD0CLK4/PE12, 50 ADC10/SD0DAT4/PE13, 51 USBDP/PB3, 52 USBDM/PB4

## BTSC05V0201B
designator D?
footprint BTSC05V0201B
pins: 1, 2

## CAP
designator C?
footprint C0603
footprint C0805B
footprint C0402
footprint C0201
footprint CAPJ100-7*5*10
footprint C1206
footprint 瓷片电容
pins: 1 "C?", 2 "C?"

## CAP+
designator C?, comment CAP
footprint CAP2.54
footprint CAP-6.3*7*7
footprint CAP-R2.7-H8
footprint CAP-R10-H16
footprint CAP3.5-R4-H12.5
footprint SMD,8x10.5mm
footprint CAP3.0-R4.1-H12.5
footprint SMD-D4xL5.8mm
footprint CAP_L6.5XH8-R
footprint CAP_L6.5XH8
footprint CAP-6.3*7*7-贴插一体
footprint EKMG250ELL220ME11D
pins: 1 "C?", 2 "C?"

## CH340E
designator U?
footprint MSOP-10
pins: 1 UD+, 2 UD-, 3 GND, 4 RTS#, 5 CTS#, 6 TNOW, 7 VCC, 8 TXD, 9 RXD, 10 V3

## CH340G
designator U?
footprint SOP16M
pins: 1 GND, 2 TXD, 3 RXD, 4 V3, 5 D+, 6 D-, 7 XI, 8 XO, 9 CTS#, 10 DSR#, 11 RI#, 12 DCD#, 13 DTR#, 14 RTS#, 15 R232, 16 VDD

## CH340K
designator U?
footprint ESOP-10L
pins: 1 UD+, 2 UD-, 3 GND, 4 DTR#, 5 CTS#, 6 RTS#, 7 VCC, 8 TXD, 9 RXD, 10 V3

## CH592F
designator U?
footprint QFN40P400X400X75_HS-29N (QFN, 28-Leads, Body 4.00x4.00mm, Pitch 0.40mm, Thermal Pad 2.80x2.80mm, IPC Medium Density)
pins: 0 GND, 1 A11/X32KO/TMR2, 2 PA10/X32KI/TMR1, 3 VDCID, 4 VSW, 5 VIO33/VDD33, 6 PA8/RXD1/AIN12, 7 PA9/TMR0/TXD1/AIN13, 8 PB15/TCK/MISO_/SCL/DTR, 9 PB14/TIO/MOSI_/SDA/PWM10/DSR, 10 PB13/SCK0_/TXD1_/DCD_, 11 PB12/SCS_/RXD1_/RI_, 12 PB11/UD+/TMR1_, 13 PB7/TXD0/PWM9, 14 PB4/RXD0/PWM7, 15 PB4/RXD0/PWM7, 16 PB23/RST/TMR0_/TXD2/PWM11, 17 PB22/TMR3/RXD2, 18 X32MO, 19 X32MI, 20 VINTA, 21 ANT, 22 VDCIA, 23 PA4/RXD3/AIN0, 24 PA5/TXD3/AIN1, 25 PA15/MISO/RXD0_/AIN5, 26 PA14/MOSI/TXD0_/AIN4, 27 PA13/SCK0/PWM5/AIN3, 28 PA12/SCS/PWM4/AIN2

## COAX
designator J?
footprint RCA座-AV1-8.4-5
pins: 1 INP, 2 GND

## CP2102
designator U?
footprint PQFN50P500X500X90_HS-29N (PQFN, 28-Leads, Body 5.00x5.00mm, Pitch 0.50mm, Thermal Pad 3.13x3.13mm, IPC Medium Density)
pins: 0 E_GND, 1 DCD, 2 RI, 3 GND, 4 D+, 5 D-, 6 VDD, 7 REGIN, 8 VBUS, 9 ~{RES}, 10 NC, 11 ~{SUSPEND}, 12 SUSPEND, 13 NC, 14 NC, 15 NC, 16 NC, 17 NC, 18 NC/VPP, 19 NC, 20 NC, 21 NC, 22 NC, 23 CTS, 24 RTS, 25 RXD, 26 TXD, 27 DSR, 28 DTR

## CS5250
designator U?
footprint ESOP-10L
pins: 1 PVBAT, 2 CP, 3 CN, 4 CTRL, 5 NCN, 6 INP, 7 INN, 8 OUTP, 9 OUTN, 10 CPOUT

## CS5290E
designator U?
footprint ESOP-10L
pins: 1 PVBAT, 2 CP, 3 CN, 4 CTRL, 5 AVBAT, 6 INP, 7 INN, 8 OUTP, 9 OUTN, 10 CPOUT

## CS5809E
designator U?, comment CS8509E
footprint ESOP8L
pins: 1 SD, 2 ABD, 3 IN+, 4 IN-, 5 VDD, 6 OUT+, 7 OUT-, 8 GND

## CS8611
designator U?
footprint ESSOP-28
pins: 1 PVCCB, 2 PGNDB, 3 OUTPB, 4 OUTPB, 5 BSPB, 6 OUTNB, 7 OUTNB, 8 BSNB, 9 PGNDB, 10 PVCCA, 11 OUTNRA, 12 BSNRA, 13 BSPRA, 14 OUTPRA, 15 OUTPLA, 16 BSPLA, 17 BSNLA, 18 OUTNLA, 19 CTRLA, 20 INPLA, 21 INNLA, 22 GVDDA, 23 INNRA, 24 INPRA, 25 GVDDB, 26 CTRLB, 27 INNB, 28 INPB, 29 PGND

## CS83702
designator U?
footprint TSOP64P620X140_HS-17N (TSOP, 16-Leads, Body 4.90x3.92mm, Pitch 0.64mm, Thermal Pad 3.70x2.40mm, IPC Medium Density)
pins: 1 PVDD, 2 OUTN, 3 PGND, 4 OUTP, 5 GVDDP, 6 NC, 7 GVDDN, 8 CTRL, 9 INN, 10 INP, 11 NCN, 12 PGND, 13 ILIMT, 14 COMP, 15 LX, 16 LX, 17 PGND

## CSC5613C
designator U?
footprint SOP-8_150MIL
pins: 1 FB, 2 NC, 3 NC, 4 VIN, 5 SW, 6 SW, 7 GND, 8 GND

## CT8224C-3
designator U?
footprint SOP-8_150MIL
pins: 1 GND, 2 OUT3, 3 OUT2, 4 OUT1, 5 TP1, 6 TP2, 7 TP3, 8 VDD

## CT8233
designator U?
footprint SOT23L-6P
pins: 1 OUT, 2 GND, 3 TCH, 4 OLH, 5 VDD, 6 HLD

## CW6611F-SSOP28
designator U?, comment CW6611F
footprint SOP65P780X200-28N (SOP, 28-Leads, Body 10.20x5.30mm, Pitch 0.65mm, IPC Medium Density)
pins: 1 P21/AUXR2, 2 MICN, 3 MICP/VCM, 4 DACVSS, 5 VDDHP, 6 DACL, 7 DACR, 8 P01/VCMBUF, 9 P13/ADKEY, 10 P31/SDCMD, 11 P32/SDDAT0, 12 P30/SDCLK, 13 P04/SPI1DO, 14 P05/SPI1CLK, 15 SPI1CS/P36, 16 VDDQ/VCC_RF, 17 RXTX, 18 E-GND, 19 VCC_XO/IF/VCO, 20 XO_P, 21 XO_N, 22 BVIN, 23 VOUT1V5/RVDD/DVDD, 24 VDDLDO, 25 VDDIO, 26 USBDM, 27 USBDP, 28 AUXL2/P20

## D
designator D?, comment 1N4148
footprint DO-214AC
footprint SOD-323
footprint SOD-123FL
footprint SOD-80
pins: 1, 2

## DE1102S
designator U?
footprint SOT89-5L
pins: 1 PWM, 2 GND, 3 VFB, 4 DRV, 5 VCC

## DIODE2
designator TVS?, comment SEBLC03
footprint SOD-323
pins: 1, 2

## DS1302
designator U?
footprint SOP-8_150MIL
pins: 1 VCC2, 2 X1, 3 X2, 4 GND, 5 CE, 6 I/O, 7 SCLK, 8 VCC1

## DW03
designator U?
footprint SOT-23-5
pins: 1 VT, 2 GND, 3 VDD, 4 VM, 5 VM

## EE13变压器
designator U?
footprint EE13-T304
part A pins: 1, 2, 6, 10
part B pins: 4, 5

## EEPROM
designator U?
footprint SOP-8_150MIL
pins: 1 A0, 2 A1, 3 A2, 4 GND, 5 SDA, 6 SCL, 7 WP, 8 VCC

## EL817S1(B)(TU)-F
designator U?
footprint SOP-4_L6.5-W4.6-P2.54-LS10.2-TL
pins: 1 AN, 2 CAT, 3 EM, 4 COL

## ESD-3L
designator TV?, comment ESD
footprint DFN1006-3
pins: 1, 2, 3

## ETA2808
designator U?
footprint ESOP8L
pins: 1 SW, 2 IN, 3 EN, 4 ISET, 5 FB, 6 OSC, 7 LDO, 8 BST

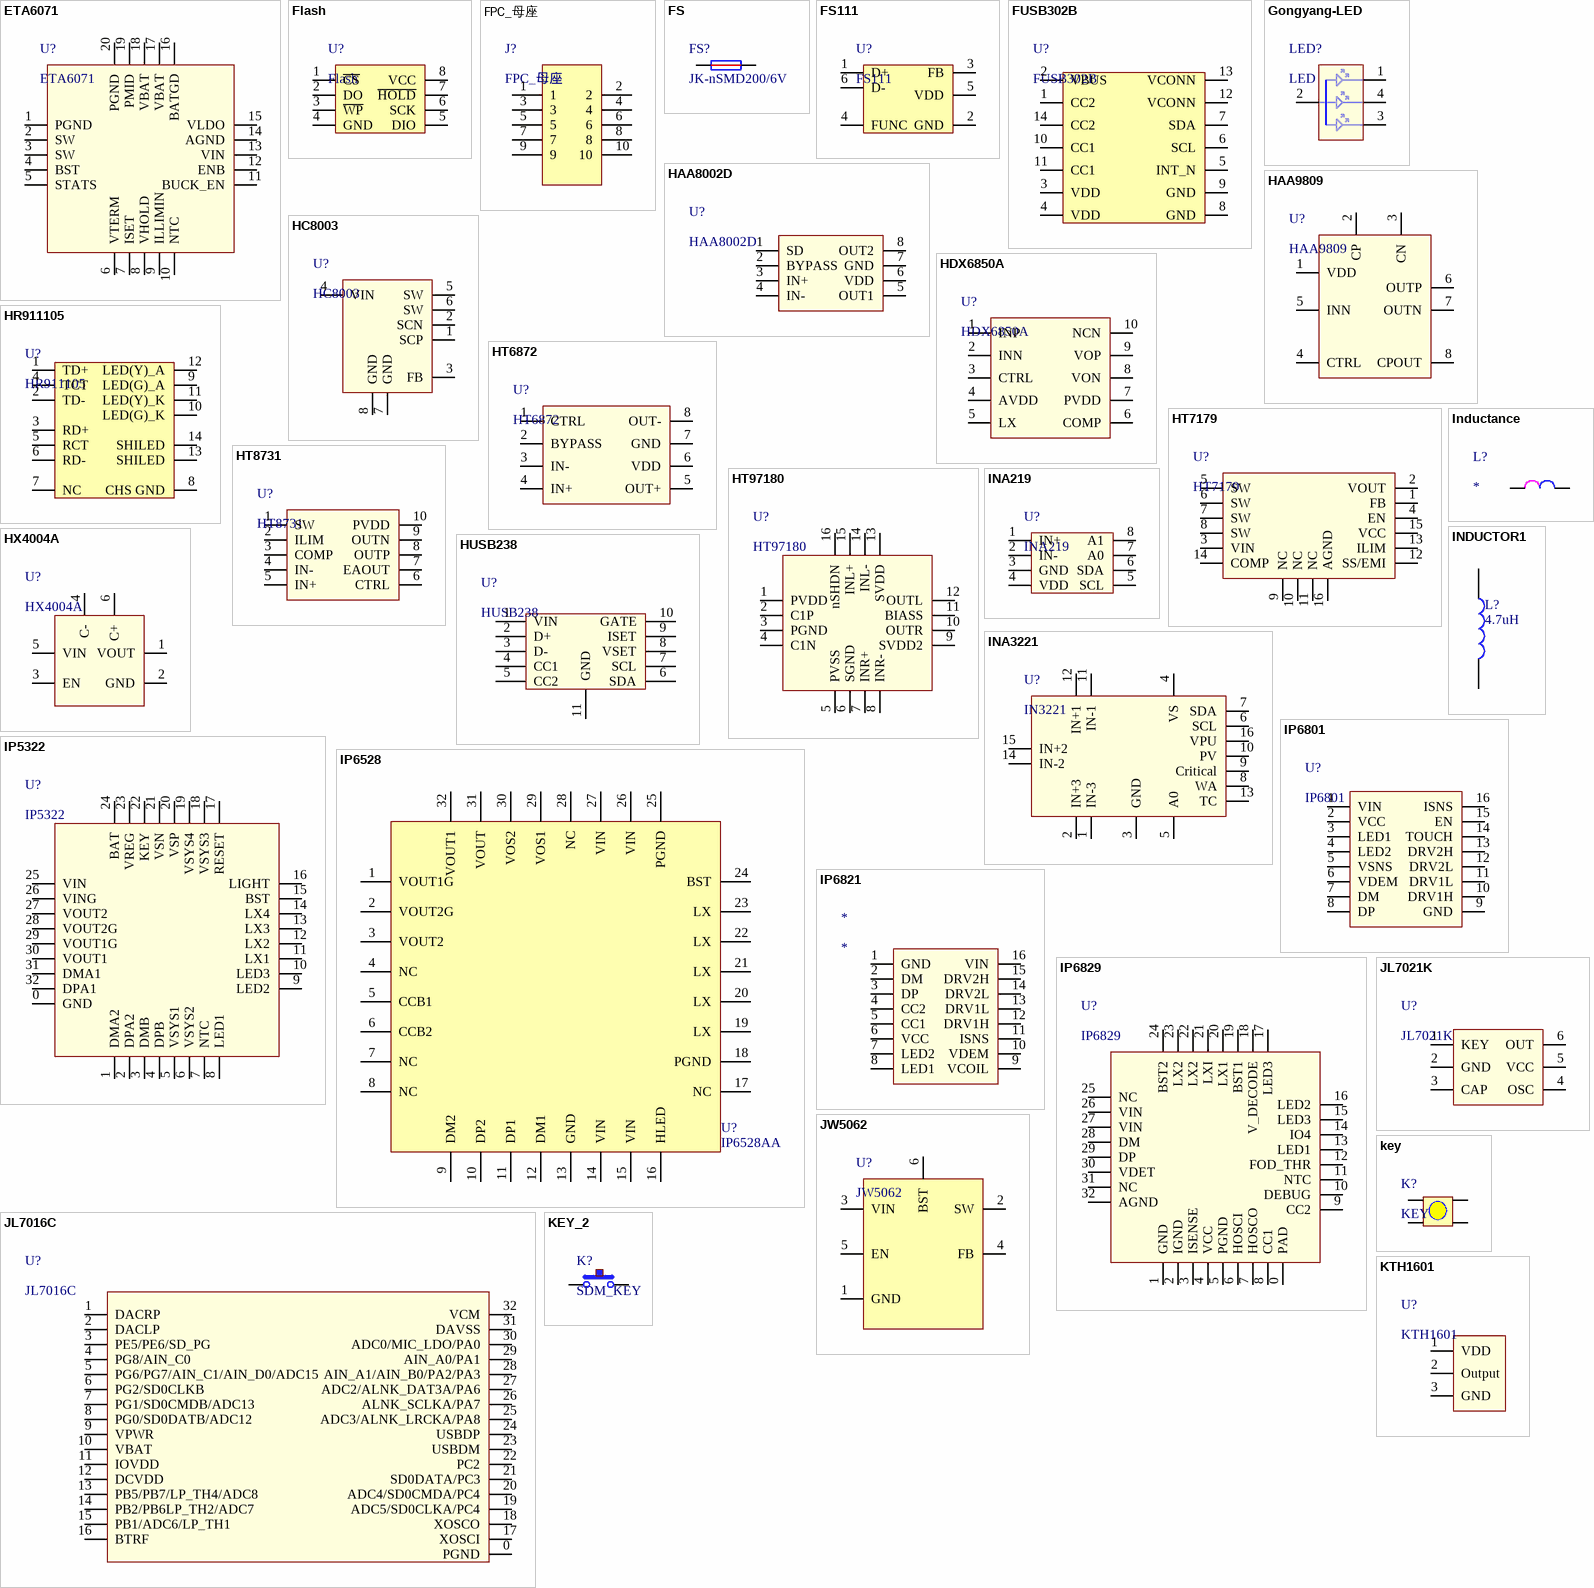
[diagram p4: symbols ETA6071 to KTH1601]

## ETA6071
designator U?
footprint QFN20_3X3 (AB_BT)
pins: 1 PGND, 2 SW, 3 SW, 4 BST, 5 STATS, 6 VTERM, 7 ISET, 8 VHOLD, 9 ILLIMIN, 10 NTC, 11 BUCK_EN, 12 ENB, 13 VIN, 14 AGND, 15 VLDO, 16 BATGD, 17 VBAT, 18 VBAT, 19 PMID, 20 PGND

## Flash
designator U?
footprint SOP-8_150MIL
footprint SOP8-208mil (SOP, 8-Leads, Body 5.23x5.28mm, Pitch 1.27mm, IPC Medium Density)
pins: 1 ~{CS}, 2 DO, 3 ~{WP}, 4 GND, 5 DIO, 6 SCK, 7 ~{HOLD}, 8 VCC

## FPC_母座
designator J?
footprint FPC_F_10PIN
pins: 1, 2, 3, 4, 5, 6, 7, 8, 9, 10

## FS
designator FS?, comment JK-nSMD200/6V
footprint FS-1206
footprint FS_小号连体座
pins: 1, 2

## FS111
designator U?
footprint SOT23L-6P
pins: 1 D+, 2 GND, 3 FB, 4 FUNC, 5 VDD, 6 D-

## FUSB302B
designator U?
footprint QFN2.5*2.5-14L
pins: 1 CC2, 2 VBUS, 3 VDD, 4 VDD, 5 INT_N, 6 SCL, 7 SDA, 8 GND, 9 GND, 10 CC1, 11 CC1, 12 VCONN, 13 VCONN, 14 CC2

## Gongyang-LED
designator LED?, comment LED
footprint 4020SMD LED-RGB
footprint 插件共阳RGB
pins: 1 R-, 2 VDD, 3 G-, 4 B-

## HAA8002D
designator U?
footprint SOP-8_150MIL
pins: 1 SD, 2 BYPASS, 3 IN+, 4 IN-, 5 OUT1, 6 VDD, 7 GND, 8 OUT2

## HAA9809
designator U?
footprint ESOP8L
pins: 1 VDD, 2 CP, 3 CN, 4 CTRL, 5 INN, 6 OUTP, 7 OUTN, 8 CPOUT

## HC8003
designator U?
footprint ESOP8L
pins: 1 SCP, 2 SCN, 3 FB, 4 VIN, 5 SW, 6 SW, 7 GND, 8 GND

## HDX6850A
designator U?
footprint ESOP-10L
pins: 1 INP, 2 INN, 3 CTRL, 4 AVDD, 5 LX, 6 COMP, 7 PVDD, 8 VON, 9 VOP, 10 NCN

## HR911105
designator U?
footprint HR911105A
pins: 1 TD+, 2 TD-, 3 RD+, 4 TCT, 5 RCT, 6 RD-, 7 NC, 8 CHS GND, 9 LED(G)_A, 10 LED(G)_K, 11 LED(Y)_K, 12 LED(Y)_A, 13 SHILED, 14 SHILED

## HT6872
designator U?
footprint SOP-8_150MIL
pins: 1 CTRL, 2 BYPASS, 3 IN-, 4 IN+, 5 OUT+, 6 VDD, 7 GND, 8 OUT-

## HT7179
designator U?
footprint SOP127P600-8N
pins: 1 FB, 2 VOUT, 3 VIN, 4 EN, 5 SW, 6 SW, 7 SW, 8 SW, 9 NC, 10 NC, 11 NC, 12 SS/EMI, 13 ILIM, 14 COMP, 15 VCC, 16 AGND

## HT8731
designator U?
pins: 1 SW, 2 ILIM, 3 COMP, 4 IN-, 5 IN+, 6 CTRL, 7 EAOUT, 8 OUTP, 9 OUTN, 10 PVDD

## HT97180
designator U?
footprint QFN50P300X300X75_HS-17N (QFN, 16-Leads, Body 3.00x3.00mm, Pitch 0.50mm, Thermal Pad 1.70x1.70mm, IPC Medium Density)
pins: 1 PVDD, 2 C1P, 3 PGND, 4 C1N, 5 PVSS, 6 SGND, 7 INR+, 8 INR-, 9 SVDD2, 10 OUTR, 11 BIASS, 12 OUTL, 13 SVDD, 14 INL-, 15 INL+, 16 nSHDN

## HUSB238
designator U?
footprint DFN-10_L3.0-W3.0-P0.50-BL-EP2.5
pins: 1 VIN, 2 D+, 3 D-, 4 CC1, 5 CC2, 6 SDA, 7 SCL, 8 VSET, 9 ISET, 10 GATE, 11 GND

## HX4004A
designator U?
footprint SOT23L-6P
pins: 1 VOUT, 2 GND, 3 EN, 4 C-, 5 VIN, 6 C+

## INA219
designator U?
footprint SOT-23-8
pins: 1 IN+, 2 IN-, 3 GND, 4 VDD, 5 SCL, 6 SDA, 7 A0, 8 A1

## INA3221
designator U?, comment IN3221
footprint QFN65P400X400X100_HS-17N (QFN, 16-Leads, Body 4.00x4.00mm, Pitch 0.65mm, Thermal Pad 2.10x2.10mm, IPC Medium Density)
pins: 1 IN-3, 2 IN+3, 3 GND, 4 VS, 5 A0, 6 SCL, 7 SDA, 8 WA, 9 Critical, 10 PV, 11 IN-1, 12 IN+1, 13 TC, 14 IN-2, 15 IN+2, 16 VPU

## Inductance
designator L?
footprint L0603
footprint L0402
footprint L0201
footprint L0805
pins: 1, 2

## INDUCTOR1
designator L?, comment 4.7uH
footprint Loop_inductance_R4.2
footprint MAPM1040F
footprint MAPM0603F
footprint MAPM1265
footprint SLT031125T2R2MNB
footprint L1210
footprint IND-SMD_L5.8-W5.2
footprint IND-SMD_L4.0-W4.0_LQH44PN2R2MP0L
footprint IND-TH_BD9.5-P5.20-D0.6
footprint IND-TH_BD7.0-P2.50-D0.7
footprint IND-TH_L16.5-W8.5-P11.00-D1.0
footprint IND-TH_L23.0-W10.5-P5.00
pins: 1, 2

## IP5322
designator U?
footprint QFN5*5-32
pins: 0 GND, 1 DMA2, 2 DPA2, 3 DMB, 4 DPB, 5 VSYS1, 6 VSYS2, 7 NTC, 8 LED1, 9 LED2, 10 LED3, 11 LX1, 12 LX2, 13 LX3, 14 LX4, 15 BST, 16 LIGHT, 17 RESET, 18 VSYS3, 19 VSYS4, 20 VSP, 21 VSN, 22 KEY, 23 VREG, 24 BAT, 25 VIN, 26 VING, 27 VOUT2, 28 VOUT2G, 29 VOUT1G, 30 VOUT1, 31 DMA1, 32 DPA1

## IP6528
designator U?, comment IP6528AA
footprint QFN5*5-32
pins: 1 VOUT1G, 2 VOUT2G, 3 VOUT2, 4 NC, 5 CCB1, 6 CCB2, 7 NC, 8 NC, 9 DM2, 10 DP2, 11 DP1, 12 DM1, 13 GND, 14 VIN, 15 VIN, 16 HLED, 17 NC, 18 PGND, 19 LX, 20 LX, 21 LX, 22 LX, 23 LX, 24 BST, 25 PGND, 26 VIN, 27 VIN, 28 NC, 29 VOS1, 30 VOS2, 31 VOUT, 32 VOUT1

## IP6801
designator U?
footprint SOP127P600X175-16N (SOP, 16-Leads, Body 9.90x3.90mm, Pitch 1.27mm, IPC Medium Density)
pins: 1 VIN, 2 VCC, 3 LED1, 4 LED2, 5 VSNS, 6 VDEM, 7 DM, 8 DP, 9 GND, 10 DRV1H, 11 DRV1L, 12 DRV2L, 13 DRV2H, 14 TOUCH, 15 EN, 16 ISNS

## IP6821
designator *
footprint SOP127P600X175-16N (SOP, 16-Leads, Body 9.90x3.90mm, Pitch 1.27mm, IPC Medium Density)
pins: 1 GND, 2 DM, 3 DP, 4 CC2, 5 CC1, 6 VCC, 7 LED2, 8 LED1, 9 VCOIL, 10 VDEM, 11 ISNS, 12 DRV1H, 13 DRV1L, 14 DRV2L, 15 DRV2H, 16 VIN

## IP6829
designator U?
footprint QFN5*5-32
pins: 0 PAD, 1 GND, 2 IGND, 3 ISENSE, 4 VCC, 5 PGND, 6 HOSCI, 7 HOSCO, 8 CC1, 9 CC2, 10 DEBUG, 11 NTC, 12 FOD_THR, 13 LED1, 14 IO4, 15 LED3, 16 LED2, 17 LED3, 18 V_DECODE, 19 BST1, 20 LX1, 21 LXI, 22 LX2, 23 LX2, 24 BST2, 25 NC, 26 VIN, 27 VIN, 28 DM, 29 DP, 30 VDET, 31 NC, 32 AGND

## JL7016C
designator U?
footprint QFN40P400X400X75_HS-33N (QFN, 32-Leads, Body 4.00x4.00mm, Pitch 0.40mm, Thermal Pad 2.80x2.80mm, IPC Medium Density)
pins: 0 PGND, 1 DACRP, 2 DACLP, 3 PE5/PE6/SD_PG, 4 PG8/AIN_C0, 5 PG6/PG7/AIN_C1/AIN_D0/ADC15, 6 PG2/SD0CLKB, 7 PG1/SD0CMDB/ADC13, 8 PG0/SD0DATB/ADC12, 9 VPWR, 10 VBAT, 11 IOVDD, 12 DCVDD, 13 PB5/PB7/LP_TH4/ADC8, 14 PB2/PB6LP_TH2/ADC7, 15 PB1/ADC6/LP_TH1, 16 BTRF, 17 XOSCI, 18 XOSCO, 19 ADC5/SD0CLKA/PC4, 20 ADC4/SD0CMDA/PC4, 21 SD0DATA/PC3, 22 PC2, 23 USBDM, 24 USBDP, 25 ADC3/ALNK_LRCKA/PA8, 26 ALNK_SCLKA/PA7, 27 ADC2/ALNK_DAT3A/PA6, 28 AIN_A1/AIN_B0/PA2/PA3, 29 AIN_A0/PA1, 30 ADC0/MIC_LDO/PA0, 31 DAVSS, 32 VCM

## JL7021K
designator U?
footprint SOT23L-6P
pins: 1 KEY, 2 GND, 3 CAP, 4 OSC, 5 VCC, 6 OUT

## JW5062
designator U?
footprint SOT23L-6P
pins: 1 GND, 2 SW, 3 VIN, 4 FB, 5 EN, 6 BST

## key
designator K?, comment KEY
footprint key_12*12*5
footprint SW-SMD_4P-L6.0-W6.0-P4.50-LS11.0
footprint KEY-TH_4P-L6.0-W6.0-H4.5-LS6.5-P4.5
footprint SW-SMD_4P-L4.5-W4.5-P4.50-LS11.0
footprint SW-SMD_4P-L3.4-W3.4-P2.00-LS4.0_TS3315A160GF
pins: 1, 2, 3, 4

## KEY_2
designator K?, comment SDM_KEY
footprint SMD-KEY
footprint SW-SMD_L3.9-W2.9-P4.15-LS5.0
footprint SMD-3*6*3.5-KEY
footprint SW-SMD_4P-L5.2-W5.2-P3.70-LS6.4
footprint SW-SMD_2*4*3.5-KG86EV-ART35
footprint 贴片立式按键
footprint KEY-插件
footprint 锅仔片按键
footprint SW-TH_TS665ZJ
footprint SW-TH_TS665ZJ (6.2*6.2*5mm 卧插 轻触开关)
pins: 1, 2

## KTH1601
designator U?
footprint SOT-23
pins: 1 VDD, 2 Output, 3 GND

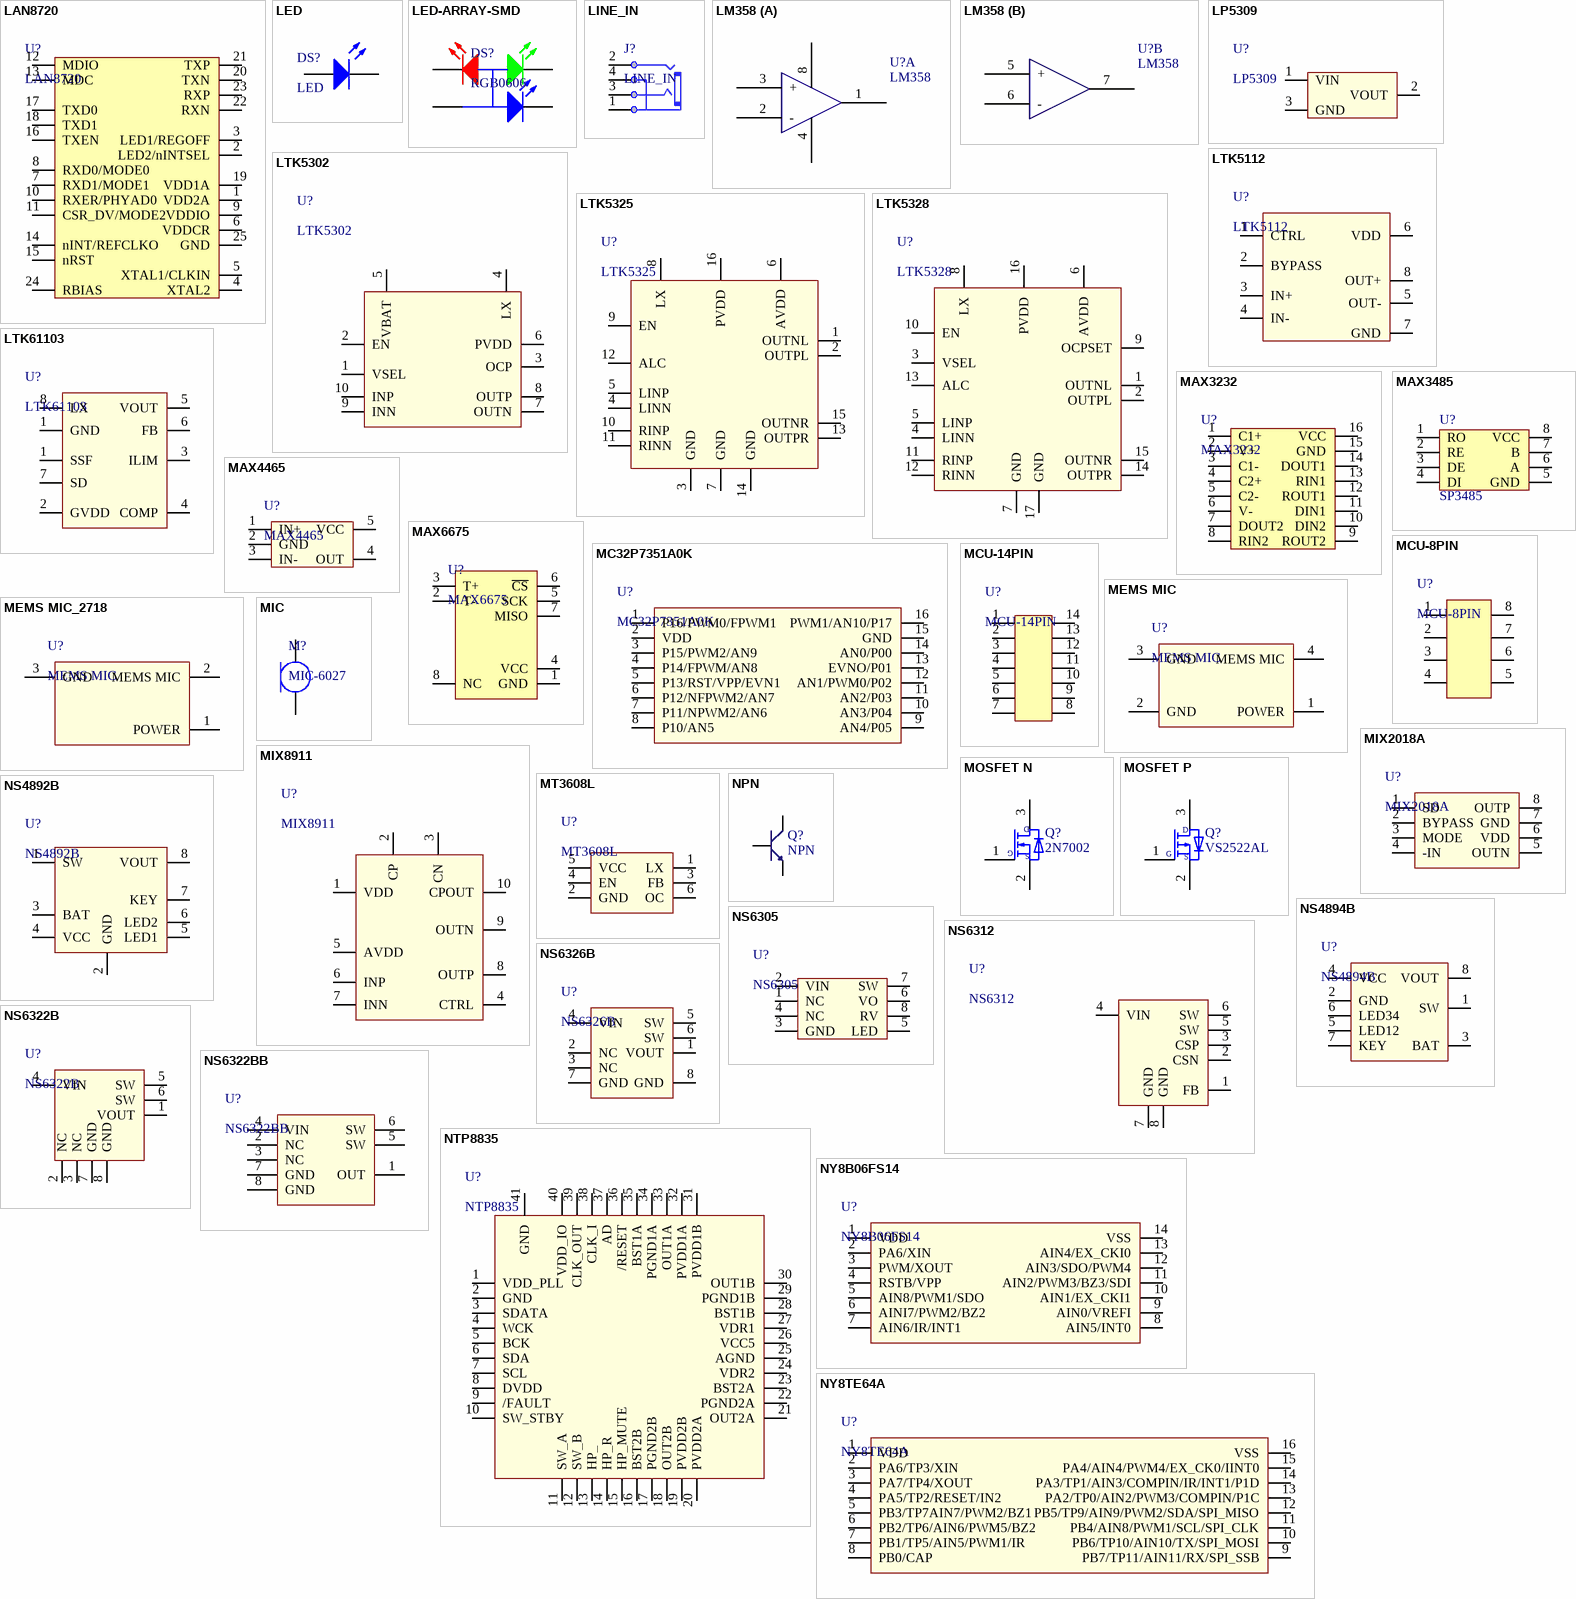
[diagram p5: symbols LAN8720 to NY8TE64A]

## LAN8720
designator U?
footprint QFN24
pins: 1 VDD2A, 2 LED2/nINTSEL, 3 LED1/REGOFF, 4 XTAL2, 5 XTAL1/CLKIN, 6 VDDCR, 7 RXD1/MODE1, 8 RXD0/MODE0, 9 VDDIO, 10 RXER/PHYAD0, 11 CSR_DV/MODE2, 12 MDIO, 13 MDC, 14 nINT/REFCLKO, 15 nRST, 16 TXEN, 17 TXD0, 18 TXD1, 19 VDD1A, 20 TXN, 21 TXP, 22 RXN, 23 RXP, 24 RBIAS, 25 GND

## LED
designator DS?
footprint D0402
footprint SMD-2835
footprint SMD3014
footprint 沉板LED
footprint LED-1
footprint 弯插LED-2.54
footprint LED-TH_BD3.8-P2.54-FD
footprint D0603-R
footprint D0603-G
footprint D0603-B
footprint D0603-W
footprint D0603-Y
footprint D0603-O
pins: 1, 2

## LED-ARRAY-SMD
designator DS?, comment RGB0606
footprint LED-ARRAY-SMD
pins: 1, 2, 3, 4

## LINE_IN
designator J?
footprint PJ-320D
footprint 3.5MM-沉板插件
footprint PJ-342E-插件
pins: 1, 2, 3, 4

## LM358
designator U?
footprint SOP-8_150MIL
part A pins: 1, 2 -, 3 +, 4, 8
part B pins: 5 +, 6 -, 7

## LP5309
designator U?
footprint SOT-23
pins: 1 VIN, 2 VOUT, 3 GND

## LTK5112
designator U?
footprint ESOP8L
pins: 1 CTRL, 2 BYPASS, 3 IN+, 4 IN-, 5 OUT-, 6 VDD, 7 GND, 8 OUT+

## LTK5302
designator U?
footprint ESOP-10L
pins: 1 VSEL, 2 EN, 3 OCP, 4 LX, 5 VBAT, 6 PVDD, 7 OUTN, 8 OUTP, 9 INN, 10 INP

## LTK5325
designator U?
footprint SOP16M
pins: 1 OUTNL, 2 OUTPL, 3 GND, 4 LINN, 5 LINP, 6 AVDD, 7 GND, 8 LX, 9 EN, 10 RINP, 11 RINN, 12 ALC, 13 OUTPR, 14 GND, 15 OUTNR, 16 PVDD

## LTK5328
designator U?
footprint TSOP127P600X135_HS-17N (TSOP, 16-Leads, Body 10.00x3.90mm, Pitch 1.27mm, Thermal Pad 4.50x3.00mm, IPC Medium Density)
pins: 1 OUTNL, 2 OUTPL, 3 VSEL, 4 LINN, 5 LINP, 6 AVDD, 7 GND, 8 LX, 9 OCPSET, 10 EN, 11 RINP, 12 RINN, 13 ALC, 14 OUTPR, 15 OUTNR, 16 PVDD, 17 GND

## LTK61103
designator U?
footprint ESOP8L
pins: 1 GND, 1 SSF, 2 GVDD, 3 ILIM, 4 COMP, 5 VOUT, 6 FB, 7 SD, 8 LX

## MAX3232
designator U?
footprint SOP16M
pins: 1 C1+, 2 V+, 3 C1-, 4 C2+, 5 C2-, 6 V-, 7 DOUT2, 8 RIN2, 9 ROUT2, 10 DIN2, 11 DIN1, 12 ROUT1, 13 RIN1, 14 DOUT1, 15 GND, 16 VCC

## MAX3485
designator U?, comment SP3485
footprint SOP-8_150MIL
pins: 1 RO, 2 RE, 3 DE, 4 DI, 5 GND, 6 A, 7 B, 8 VCC

## MAX4465
designator U?
footprint SC-70-5
pins: 1 IN+, 2 GND, 3 IN-, 4 OUT, 5 VCC

## MAX6675
designator U?
footprint SOP-8_150MIL
pins: 1 GND, 2 T-, 3 T+, 4 VCC, 5 SCK, 6 ~{CS}, 7 MISO, 8 NC

## MC32P7351A0K
designator U?
footprint SOP127P600X175-16N (SOP, 16-Leads, Body 9.90x3.90mm, Pitch 1.27mm, IPC Medium Density)
pins: 1 P16/PWM0/FPWM1, 2 VDD, 3 P15/PWM2/AN9, 4 P14/FPWM/AN8, 5 P13/RST/VPP/EVN1, 6 P12/NFPWM2/AN7, 7 P11/NPWM2/AN6, 8 P10/AN5, 9 AN4/P05, 10 AN3/P04, 11 AN2/P03, 12 AN1/PWM0/P02, 13 EVNO/P01, 14 AN0/P00, 15 GND, 16 PWM1/AN10/P17

## MCU-8PIN
designator U?
footprint SOP-8_150MIL
pins: 1, 2, 3, 4, 5, 6, 7, 8

## MCU-14PIN
designator U?
footprint SOP-14
pins: 1, 2, 3, 4, 5, 6, 7, 8, 9, 10, 11, 12, 13, 14

## MEMS MIC
designator U?
footprint EBM2718AT-N30-A30
pins: 1 POWER, 2 GND, 3 GND, 4 MEMS MIC

## MEMS MIC_2718
designator U?, comment MEMS MIC
footprint MIC-2718
pins: 1 POWER, 2 MEMS MIC, 3 GND

## MIC
designator M?, comment MIC-6027
footprint MIC-4013
footprint MIC-TH_BD6.0-P1.90-D0.4-L
pins: 1, 2

## MIX2018A
designator U?
footprint ESOP8L
pins: 1 SD, 2 BYPASS, 3 MODE, 4 -IN, 5 OUTN, 6 VDD, 7 GND, 8 OUTP

## MIX8911
designator U?
footprint ESOP-10L
pins: 1 VDD, 2 CP, 3 CN, 4 CTRL, 5 AVDD, 6 INP, 7 INN, 8 OUTP, 9 OUTN, 10 CPOUT

## MOSFET N
designator Q?, comment 2N7002
footprint SOT-23
footprint QFN3*3-8
pins: 1 G, 2 S, 3 D

## MOSFET P
designator Q?, comment VS2522AL
footprint SOT-23
footprint QFN3*3-8
pins: 1 G, 2 S, 3 D

## MT3608L
designator U?
footprint SOT23L-6P
pins: 1 LX, 2 GND, 3 FB, 4 EN, 5 VCC, 6 OC

## NPN
designator Q?
footprint SOT-23
pins: 1 B, 2 E, 3 C

## NS4892B
designator U?
footprint ESOP8L
pins: 1 SW, 2 GND, 3 BAT, 4 VCC, 5 LED1, 6 LED2, 7 KEY, 8 VOUT

## NS4894B
designator U?
footprint SOP-8_150MIL
pins: 1 SW, 2 GND, 3 BAT, 4 VCC, 5 LED12, 6 LED34, 7 KEY, 8 VOUT

## NS6305
designator U?
footprint SOP-8_150MIL
pins: 1 NC, 2 VIN, 3 GND, 4 NC, 5 LED, 6 VO, 7 SW, 8 RV

## NS6312
designator U?
footprint SOP-8_150MIL
pins: 1 FB, 2 CSN, 3 CSP, 4 VIN, 5 SW, 6 SW, 7 GND, 8 GND

## NS6322B
designator U?
footprint SOP-8_150MIL
pins: 1 VOUT, 2 NC, 3 NC, 4 VIN, 5 SW, 6 SW, 7 GND, 8 GND

## NS6322BB
designator U?
footprint SOP-8_150MIL
pins: 1 OUT, 2 NC, 3 NC, 4 VIN, 5 SW, 6 SW, 7 GND, 8 GND

## NS6326B
designator U?
footprint ESOP8L
pins: 1 VOUT, 2 NC, 3 NC, 4 VIN, 5 SW, 6 SW, 7 GND, 8 GND

## NTP8835
designator U?
footprint QFN50P600X600X75_HS-41N (QFN, 40-Leads, Body 6.00x6.00mm, Pitch 0.50mm, Thermal Pad 4.50x3.30mm, IPC Medium Density)
pins: 1 VDD_PLL, 2 GND, 3 SDATA, 4 WCK, 5 BCK, 6 SDA, 7 SCL, 8 DVDD, 9 /FAULT, 10 SW_STBY, 11 SW_A, 12 SW_B, 13 HP_, 14 HP_R, 15 HP_MUTE, 16 BST2B, 17 PGND2B, 18 OUT2B, 19 PVDD2B, 20 PVDD2A, 21 OUT2A, 22 PGND2A, 23 BST2A, 24 VDR2, 25 AGND, 26 VCC5, 27 VDR1, 28 BST1B, 29 PGND1B, 30 OUT1B, 31 PVDD1B, 32 PVDD1A, 33 OUT1A, 34 PGND1A, 35 BST1A, 36 /RESET, 37 AD, 38 CLK_I, 39 CLK_OUT, 40 VDD_IO, 41 GND

## NY8B06FS14
designator U?
footprint SOP-14
pins: 1 VDD, 2 PA6/XIN, 3 PWM/XOUT, 4 RSTB/VPP, 5 AIN8/PWM1/SDO, 6 AINI7/PWM2/BZ2, 7 AIN6/IR/INT1, 8 AIN5/INT0, 9 AIN0/VREFI, 10 AIN1/EX_CKI1, 11 AIN2/PWM3/BZ3/SDI, 12 AIN3/SDO/PWM4, 13 AIN4/EX_CKI0, 14 VSS

## NY8TE64A
designator U?
footprint SOP16M
pins: 1 VDD, 2 PA6/TP3/XIN, 3 PA7/TP4/XOUT, 4 PA5/TP2/RESET/IN2, 5 PB3/TP7AIN7/PWM2/BZ1, 6 PB2/TP6/AIN6/PWM5/BZ2, 7 PB1/TP5/AIN5/PWM1/IR, 8 PB0/CAP, 9 PB7/TP11/AIN11/RX/SPI_SSB, 10 PB6/TP10/AIN10/TX/SPI_MOSI, 11 PB4/AIN8/PWM1/SCL/SPI_CLK, 12 PB5/TP9/AIN9/PWM2/SDA/SPI_MISO, 13 PA2/TP0/AIN2/PWM3/COMPIN/P1C, 14 PA3/TP1/AIN3/COMPIN/IR/INT1/P1D, 15 PA4/AIN4/PWM4/EX_CK0/IINT0, 16 VSS

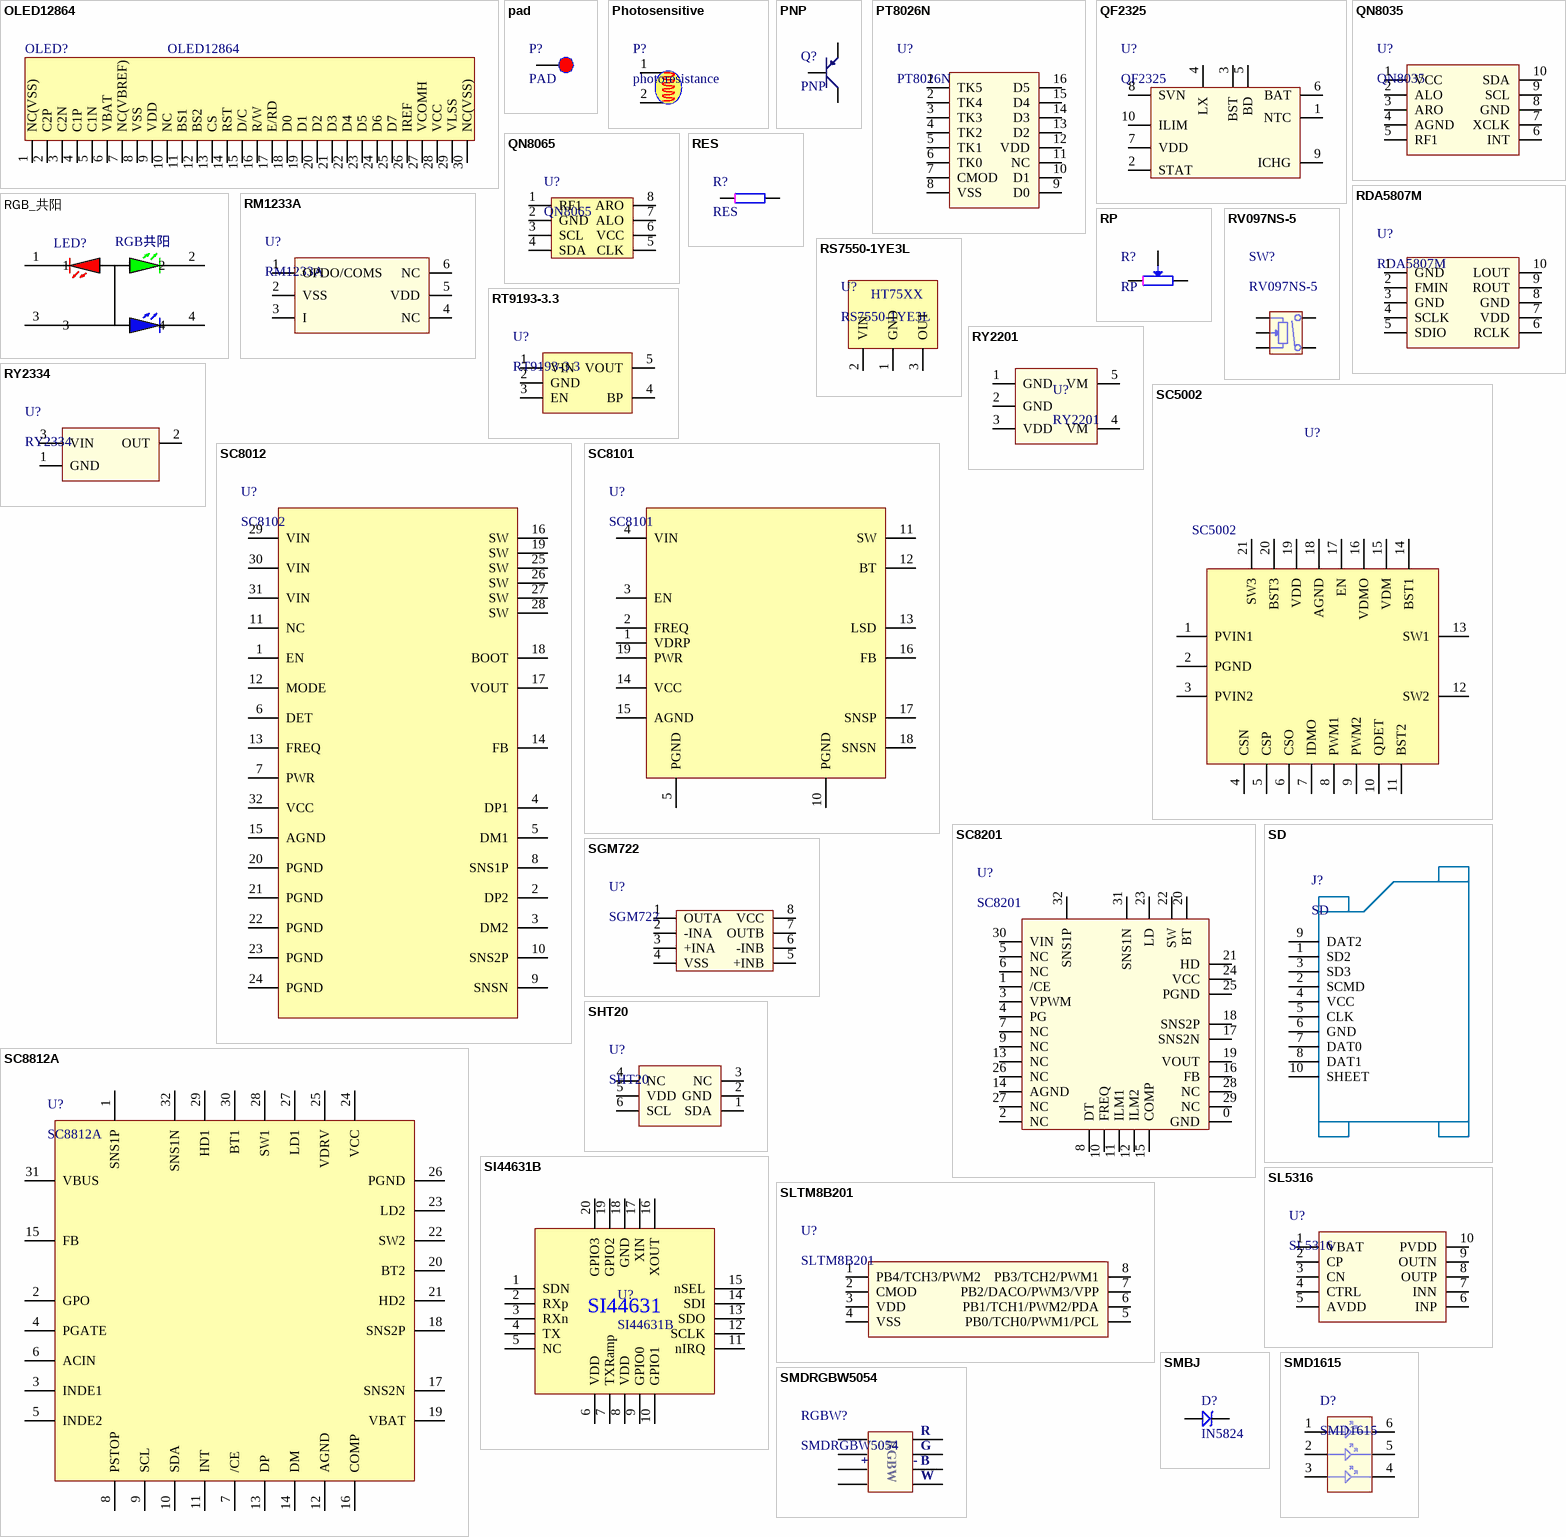
[diagram p6: symbols OLED12864 to SMDRGBW5054]

## OLED12864
designator OLED?
footprint OLED_096
pins: 1 NC(VSS), 2 C2P, 3 C2N, 4 C1P, 5 C1N, 6 VBAT, 7 NC(VBREF), 8 VSS, 9 VDD, 10 NC, 11 BS1, 12 BS2, 13 CS, 14 RST, 15 D/C, 16 R/W, 17 E/RD, 18 D0, 19 D1, 20 D2, 21 D3, 22 D4, 23 D5, 24 D6, 25 D7, 26 IREF, 27 VCOMH, 28 VCC, 29 VLSS, 30 NC(VSS)

## pad
designator P?, comment PAD
footprint PAD-3*3*2
footprint 车充负极弹片
footprint Thimble
pins: 1

## Photosensitive
designator P?, comment photoresistance
footprint Photosensitive(7*6-5)
footprint Photosensitive
pins: 1, 2

## PNP
designator Q?
footprint SOT-23
pins: 1 E, 2 B, 3 C

## PT8026N
designator U?
footprint SOP127P600X175-16N (SOP, 16-Leads, Body 9.90x3.90mm, Pitch 1.27mm, IPC Medium Density)
pins: 1 TK5, 2 TK4, 3 TK3, 4 TK2, 5 TK1, 6 TK0, 7 CMOD, 8 VSS, 9 D0, 10 D1, 11 NC, 12 VDD, 13 D2, 14 D3, 15 D4, 16 D5

## QF2325
designator U?
footprint ESOP-10L
pins: 1 NTC, 2 STAT, 3 BST, 4 LX, 5 BD, 6 BAT, 7 VDD, 8 SVN, 9 ICHG, 10 ILIM

## QN8035
designator U?
footprint MSOP-10
pins: 1 VCC, 2 ALO, 3 ARO, 4 AGND, 5 RF1, 6 INT, 7 XCLK, 8 GND, 9 SCL, 10 SDA

## QN8065
designator U?
footprint SOP-8_150MIL
pins: 1 RF1, 2 GND, 3 SCL, 4 SDA, 5 CLK, 6 VCC, 7 ALO, 8 ARO

## RDA5807M
designator U?
footprint MSOP-10
pins: 1 GND, 2 FMIN, 3 GND, 4 SCLK, 5 SDIO, 6 RCLK, 7 VDD, 8 GND, 9 ROUT, 10 LOUT

## RES
designator R?
footprint R0402
footprint R0603
footprint R0805
footprint R1206
footprint R-6.5MM
footprint R1206B
footprint R0201
footprint R0603-J
pins: 1, 2

## RGB_共阳
designator LED?, comment RGB共阳
footprint LED_1615_RGB
pins: 1, 2, 3, 4

## RM1233A
designator U?
footprint SOT23L-6P
pins: 1 OPDO/COMS, 2 VSS, 3 I, 4 NC, 5 VDD, 6 NC

## RP
designator R?
footprint RES ADJUST
footprint SW_B303BA
footprint RP097-3
footprint RP097-3
pins: 1, 2, 3

## RS7550-1YE3L
designator U?
footprint SOT89M
pins: 1 GND, 2 VIN, 3 OUT
text: HT75XX

## RT9193-3.3
designator U?
footprint SOT-23-5
pins: 1 VIN, 2 GND, 3 EN, 4 BP, 5 VOUT

## RV097NS-5
designator SW?
footprint RV097NS-5
footprint RV12MM
footprint RP097A-0032
footprint RP097-018
footprint WH148
footprint RK097立式弯脚单联
footprint RK097立式弯脚单联
pins: 1, 2, 3, 4, 5

## RY2201
designator U?
footprint SOT-23-5
pins: 1 GND, 2 GND, 3 VDD, 4 VM, 5 VM

## RY2334
designator U?
footprint SOT-23
pins: 1 GND, 2 OUT, 3 VIN

## SC5002
designator U?
footprint FCQFN21L
pins: 1 PVIN1, 2 PGND, 3 PVIN2, 4 CSN, 5 CSP, 6 CSO, 7 IDMO, 8 PWM1, 9 PWM2, 10 QDET, 11 BST2, 12 SW2, 13 SW1, 14 BST1, 15 VDM, 16 VDMO, 17 EN, 18 AGND, 19 VDD, 20 BST3, 21 SW3

## SC8012
designator U?, comment SC8102
footprint QFN50P500X500X80-32N (QFN, 32-Leads, Body 5.00x5.00mm, Pitch 0.50mm, IPC Medium Density)
pins: 1 EN, 2 DP2, 3 DM2, 4 DP1, 5 DM1, 6 DET, 7 PWR, 8 SNS1P, 9 SNSN, 10 SNS2P, 11 NC, 12 MODE, 13 FREQ, 14 FB, 15 AGND, 16 SW, 17 VOUT, 18 BOOT, 19 SW, 20 PGND, 21 PGND, 22 PGND, 23 PGND, 24 PGND, 25 SW, 26 SW, 27 SW, 28 SW, 29 VIN, 30 VIN, 31 VIN, 32 VCC

## SC8101
designator U?
footprint QFN19(3mm*3mm*0.55mm)
pins: 1 VDRP, 2 FREQ, 3 EN, 4 VIN, 5 PGND, 10 PGND, 11 SW, 12 BT, 13 LSD, 14 VCC, 15 AGND, 16 FB, 17 SNSP, 18 SNSN, 19 PWR

## SC8201
designator U?
footprint QFN40P400X400X75_HS-33N (QFN, 32-Leads, Body 4.00x4.00mm, Pitch 0.40mm, Thermal Pad 2.80x2.80mm, IPC Medium Density)
pins: 0 GND, 1 /CE, 2 NC, 3 VPWM, 4 PG, 5 NC, 6 NC, 7 NC, 8 DT, 9 NC, 10 FREQ, 11 ILM1, 12 ILM2, 13 NC, 14 AGND, 15 COMP, 16 FB, 17 SNS2N, 18 SNS2P, 19 VOUT, 20 BT, 21 HD, 22 SW, 23 LD, 24 VCC, 25 PGND, 26 NC, 27 NC, 28 NC, 29 NC, 30 VIN, 31 SNS1N, 32 SNS1P

## SC8812A
designator U?
footprint QFN4*4-32
pins: 1 SNS1P, 2 GPO, 3 INDE1, 4 PGATE, 5 INDE2, 6 ACIN, 7 /CE, 8 PSTOP, 9 SCL, 10 SDA, 11 INT, 12 AGND, 13 DP, 14 DM, 15 FB, 16 COMP, 17 SNS2N, 18 SNS2P, 19 VBAT, 20 BT2, 21 HD2, 22 SW2, 23 LD2, 24 VCC, 25 VDRV, 26 PGND, 27 LD1, 28 SW1, 29 HD1, 30 BT1, 31 VBUS, 32 SNS1N

## SD
designator J?
footprint SD
pins: 1 SD2, 2 SCMD, 3 SD3, 4 VCC, 5 CLK, 6 GND, 7 DAT0, 8 DAT1, 9 DAT2, 10 SHEET

## SGM722
designator U?
footprint MSOP-8
pins: 1 OUTA, 2 -INA, 3 +INA, 4 VSS, 5 +INB, 6 -INB, 7 OUTB, 8 VCC

## SHT20
designator U?
footprint DFN-6 (SHT20)
pins: 1 SDA, 2 GND, 3 NC, 4 NC, 5 VDD, 6 SCL

## SI44631B
designator U?
footprint QFN20-4*4
pins: 1 SDN, 2 RXp, 3 RXn, 4 TX, 5 NC, 6 VDD, 7 TXRamp, 8 VDD, 9 GPIO0, 10 GPIO1, 11 nIRQ, 12 SCLK, 13 SDO, 14 SDI, 15 nSEL, 16 XOUT, 17 XIN, 18 GND, 19 GPIO2, 20 GPIO3
text: SI44631

## SL5316
designator U?
footprint ESOP-10L
pins: 1 VBAT, 2 CP, 3 CN, 4 CTRL, 5 AVDD, 6 INP, 7 INN, 8 OUTP, 9 OUTN, 10 PVDD

## SLTM8B201
designator U?
footprint SOP-8_150MIL
pins: 1 PB4/TCH3/PWM2, 2 CMOD, 3 VDD, 4 VSS, 5 PB0/TCH0/PWM1/PCL, 6 PB1/TCH1/PWM2/PDA, 7 PB2/DACO/PWM3/VPP, 8 PB3/TCH2/PWM1

## SMBJ
designator D?, comment IN5824
TVS
footprint 0805D
pins: 1, 2

## SMD1615
designator D?
footprint SMD1615
footprint LED-SMD_6P-L5.0-W5.0-FD
pins: 1 G+, 2 R+, 3 B+, 4 B-, 5 R-, 6 G-

## SMDRGBW5054
designator RGBW?
footprint SMD_RGBW_5054
pins: 1, 2, 3, 4, 5, 6, 7, 8
text: RGBW; R; G; +; -; B; W

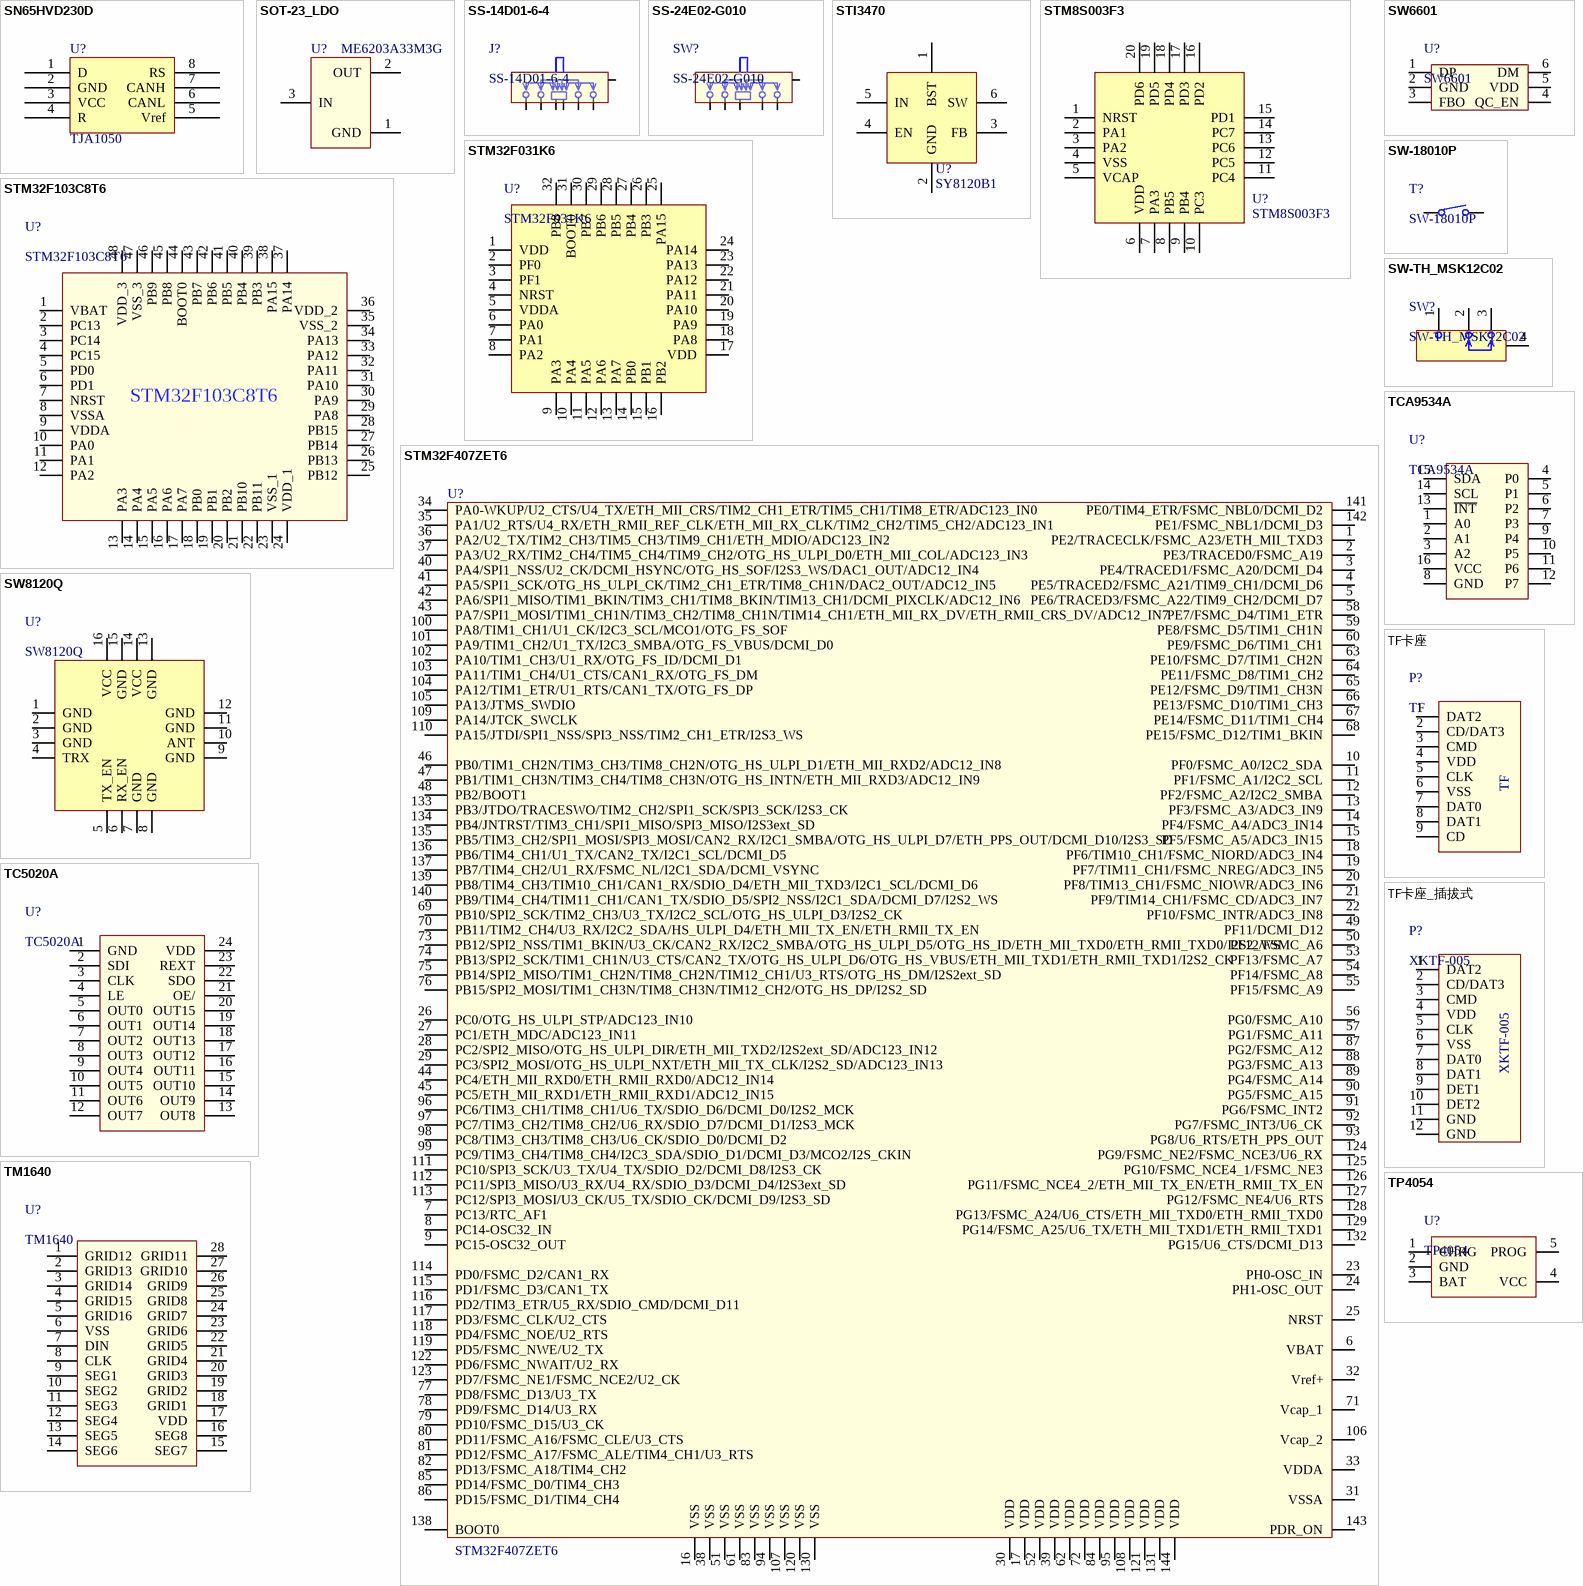
[diagram p7: symbols SN65HVD230D to TP4054]

## SN65HVD230D
designator U?, comment TJA1050
footprint SOP-8_150MIL
pins: 1 D, 2 GND (power), 3 VCC (power), 4 R, 5 Vref, 6 CANL, 7 CANH, 8 RS
2 alternate drawings of the same symbol

## SOT-23_LDO
designator U?, comment ME6203A33M3G
footprint SOT-23
footprint SOT89M
pins: 1 GND, 2 OUT, 3 IN

## SS-14D01-6-4
designator J?
footprint SS-14D01-6-4
footprint SMD_SS-14D01-6-4
pins: 1, 2, 3, 4, 5, 6, 7

## SS-24E02-G010
designator SW?
footprint SS-24E02-G010
pins: 1, 2, 3, 5, 5, 6

## STI3470
designator U?, comment SY8120B1
footprint SOT23L-6P
pins: 1 BST, 2 GND, 3 FB, 4 EN, 5 IN, 6 SW

## STM8S003F3
designator U?
footprint QFN3*3-20
pins: 1 NRST, 2 PA1, 3 PA2, 4 VSS, 5 VCAP, 6 VDD, 7 PA3, 8 PB5, 9 PB4, 10 PC3, 11 PC4, 12 PC5, 13 PC6, 14 PC7, 15 PD1, 16 PD2, 17 PD3, 18 PD4, 19 PD5, 20 PD6

## STM32F031K6
designator U?
footprint QFN5*5-32
pins: 1 VDD, 2 PF0, 3 PF1, 4 NRST, 5 VDDA, 6 PA0, 7 PA1, 8 PA2, 9 PA3, 10 PA4, 11 PA5, 12 PA6, 13 PA7, 14 PB0, 15 PB1, 16 PB2, 17 VDD, 18 PA8, 19 PA9, 20 PA10, 21 PA11, 22 PA12, 23 PA13, 24 PA14, 25 PA15, 26 PB3, 27 PB4, 28 PB5, 29 PB6, 30 PB7, 31 BOOT0, 32 PB8

## STM32F103C8T6
designator U?
footprint LQFP48
pins: 1 VBAT, 2 PC13, 3 PC14, 4 PC15, 5 PD0, 6 PD1, 7 NRST, 8 VSSA, 9 VDDA, 10 PA0, 11 PA1, 12 PA2, 13 PA3, 14 PA4, 15 PA5, 16 PA6, 17 PA7, 18 PB0, 19 PB1, 20 PB2, 21 PB10, 22 PB11, 23 VSS_1, 24 VDD_1, 25 PB12, 26 PB13, 27 PB14, 28 PB15, 29 PA8, 30 PA9, 31 PA10, 32 PA11, 33 PA12, 34 PA13, 35 VSS_2, 36 VDD_2, 37 PA14, 38 PA15, 39 PB3, 40 PB4, 41 PB5, 42 PB6, 43 PB7, 44 BOOT0, 45 PB8, 46 PB9, 47 VSS_3, 48 VDD_3

## STM32F407ZET6
designator U?
footprint LQFP144
pins: 1 PE2/TRACECLK/FSMC_A23/ETH_MII_TXD3, 2 PE3/TRACED0/FSMC_A19, 3 PE4/TRACED1/FSMC_A20/DCMI_D4, 4 PE5/TRACED2/FSMC_A21/TIM9_CH1/DCMI_D6, 5 PE6/TRACED3/FSMC_A22/TIM9_CH2/DCMI_D7, 6 VBAT, 7 PC13/RTC_AF1, 8 PC14-OSC32_IN, 9 PC15-OSC32_OUT, 10 PF0/FSMC_A0/I2C2_SDA, 11 PF1/FSMC_A1/I2C2_SCL, 12 PF2/FSMC_A2/I2C2_SMBA, 13 PF3/FSMC_A3/ADC3_IN9, 14 PF4/FSMC_A4/ADC3_IN14, 15 PF5/FSMC_A5/ADC3_IN15, 16 VSS, 17 VDD, 18 PF6/TIM10_CH1/FSMC_NIORD/ADC3_IN4, 19 PF7/TIM11_CH1/FSMC_NREG/ADC3_IN5, 20 PF8/TIM13_CH1/FSMC_NIOWR/ADC3_IN6, 21 PF9/TIM14_CH1/FSMC_CD/ADC3_IN7, 22 PF10/FSMC_INTR/ADC3_IN8, 23 PH0-OSC_IN, 24 PH1-OSC_OUT, 25 NRST, 26 PC0/OTG_HS_ULPI_STP/ADC123_IN10, 27 PC1/ETH_MDC/ADC123_IN11, 28 PC2/SPI2_MISO/OTG_HS_ULPI_DIR/ETH_MII_TXD2/I2S2ext_SD/ADC123_IN12, 29 PC3/SPI2_MOSI/OTG_HS_ULPI_NXT/ETH_MII_TX_CLK/I2S2_SD/ADC123_IN13, 30 VDD, 31 VSSA, 32 Vref+, 33 VDDA, 34 PA0-WKUP/U2_CTS/U4_TX/ETH_MII_CRS/TIM2_CH1_ETR/TIM5_CH1/TIM8_ETR/ADC123_IN0, 35 PA1/U2_RTS/U4_RX/ETH_RMII_REF_CLK/ETH_MII_RX_CLK/TIM2_CH2/TIM5_CH2/ADC123_IN1, 36 PA2/U2_TX/TIM2_CH3/TIM5_CH3/TIM9_CH1/ETH_MDIO/ADC123_IN2, 37 PA3/U2_RX/TIM2_CH4/TIM5_CH4/TIM9_CH2/OTG_HS_ULPI_D0/ETH_MII_COL/ADC123_IN3, 38 VSS, 39 VDD, 40 PA4/SPI1_NSS/U2_CK/DCMI_HSYNC/OTG_HS_SOF/I2S3_WS/DAC1_OUT/ADC12_IN4, 41 PA5/SPI1_SCK/OTG_HS_ULPI_CK/TIM2_CH1_ETR/TIM8_CH1N/DAC2_OUT/ADC12_IN5, 42 PA6/SPI1_MISO/TIM1_BKIN/TIM3_CH1/TIM8_BKIN/TIM13_CH1/DCMI_PIXCLK/ADC12_IN6, 43 PA7/SPI1_MOSI/TIM1_CH1N/TIM3_CH2/TIM8_CH1N/TIM14_CH1/ETH_MII_RX_DV/ETH_RMII_CRS_DV/ADC12_IN7, 44 PC4/ETH_MII_RXD0/ETH_RMII_RXD0/ADC12_IN14, 45 PC5/ETH_MII_RXD1/ETH_RMII_RXD1/ADC12_IN15, 46 PB0/TIM1_CH2N/TIM3_CH3/TIM8_CH2N/OTG_HS_ULPI_D1/ETH_MII_RXD2/ADC12_IN8, 47 PB1/TIM1_CH3N/TIM3_CH4/TIM8_CH3N/OTG_HS_INTN/ETH_MII_RXD3/ADC12_IN9, 48 PB2/BOOT1, 49 PF11/DCMI_D12, 50 PF12/FSMC_A6, 51 VSS, 52 VDD, 53 PF13/FSMC_A7, 54 PF14/FSMC_A8, 55 PF15/FSMC_A9, 56 PG0/FSMC_A10, 57 PG1/FSMC_A11, 58 PE7/FSMC_D4/TIM1_ETR, 59 PE8/FSMC_D5/TIM1_CH1N, 60 PE9/FSMC_D6/TIM1_CH1, 61 VSS, 62 VDD, 63 PE10/FSMC_D7/TIM1_CH2N, 64 PE11/FSMC_D8/TIM1_CH2, 65 PE12/FSMC_D9/TIM1_CH3N, 66 PE13/FSMC_D10/TIM1_CH3, 67 PE14/FSMC_D11/TIM1_CH4, 68 PE15/FSMC_D12/TIM1_BKIN, 69 PB10/SPI2_SCK/TIM2_CH3/U3_TX/I2C2_SCL/OTG_HS_ULPI_D3/I2S2_CK, 70 PB11/TIM2_CH4/U3_RX/I2C2_SDA/HS_ULPI_D4/ETH_MII_TX_EN/ETH_RMII_TX_EN, 71 Vcap_1, 72 VDD, 73 PB12/SPI2_NSS/TIM1_BKIN/U3_CK/CAN2_RX/I2C2_SMBA/OTG_HS_ULPI_D5/OTG_HS_ID/ETH_MII_TXD0/ETH_RMII_TXD0/I2S2_WS, 74 PB13/SPI2_SCK/TIM1_CH1N/U3_CTS/CAN2_TX/OTG_HS_ULPI_D6/OTG_HS_VBUS/ETH_MII_TXD1/ETH_RMII_TXD1/I2S2_CK, 75 PB14/SPI2_MISO/TIM1_CH2N/TIM8_CH2N/TIM12_CH1/U3_RTS/OTG_HS_DM/I2S2ext_SD, 76 PB15/SPI2_MOSI/TIM1_CH3N/TIM8_CH3N/TIM12_CH2/OTG_HS_DP/I2S2_SD, 77 PD8/FSMC_D13/U3_TX, 78 PD9/FSMC_D14/U3_RX, 79 PD10/FSMC_D15/U3_CK, 80 PD11/FSMC_A16/FSMC_CLE/U3_CTS, 81 PD12/FSMC_A17/FSMC_ALE/TIM4_CH1/U3_RTS, 82 PD13/FSMC_A18/TIM4_CH2, 83 VSS, 84 VDD, 85 PD14/FSMC_D0/TIM4_CH3, 86 PD15/FSMC_D1/TIM4_CH4, 87 PG2/FSMC_A12, 88 PG3/FSMC_A13, 89 PG4/FSMC_A14, 90 PG5/FSMC_A15, 91 PG6/FSMC_INT2, 92 PG7/FSMC_INT3/U6_CK, 93 PG8/U6_RTS/ETH_PPS_OUT, 94 VSS, 95 VDD, 96 PC6/TIM3_CH1/TIM8_CH1/U6_TX/SDIO_D6/DCMI_D0/I2S2_MCK, 97 PC7/TIM3_CH2/TIM8_CH2/U6_RX/SDIO_D7/DCMI_D1/I2S3_MCK, 98 PC8/TIM3_CH3/TIM8_CH3/U6_CK/SDIO_D0/DCMI_D2, 99 PC9/TIM3_CH4/TIM8_CH4/I2C3_SDA/SDIO_D1/DCMI_D3/MCO2/I2S_CKIN, 100 PA8/TIM1_CH1/U1_CK/I2C3_SCL/MCO1/OTG_FS_SOF, 101 PA9/TIM1_CH2/U1_TX/I2C3_SMBA/OTG_FS_VBUS/DCMI_D0, 102 PA10/TIM1_CH3/U1_RX/OTG_FS_ID/DCMI_D1, 103 PA11/TIM1_CH4/U1_CTS/CAN1_RX/OTG_FS_DM, 104 PA12/TIM1_ETR/U1_RTS/CAN1_TX/OTG_FS_DP, 105 PA13/JTMS_SWDIO, 106 Vcap_2, 107 VSS, 108 VDD, 109 PA14/JTCK_SWCLK, 110 PA15/JTDI/SPI1_NSS/SPI3_NSS/TIM2_CH1_ETR/I2S3_WS, 111 PC10/SPI3_SCK/U3_TX/U4_TX/SDIO_D2/DCMI_D8/I2S3_CK, 112 PC11/SPI3_MISO/U3_RX/U4_RX/SDIO_D3/DCMI_D4/I2S3ext_SD, 113 PC12/SPI3_MOSI/U3_CK/U5_TX/SDIO_CK/DCMI_D9/I2S3_SD, 114 PD0/FSMC_D2/CAN1_RX, 115 PD1/FSMC_D3/CAN1_TX, 116 PD2/TIM3_ETR/U5_RX/SDIO_CMD/DCMI_D11, 117 PD3/FSMC_CLK/U2_CTS, 118 PD4/FSMC_NOE/U2_RTS, 119 PD5/FSMC_NWE/U2_TX, 120 VSS, 121 VDD, 122 PD6/FSMC_NWAIT/U2_RX, 123 PD7/FSMC_NE1/FSMC_NCE2/U2_CK, 124 PG9/FSMC_NE2/FSMC_NCE3/U6_RX, 125 PG10/FSMC_NCE4_1/FSMC_NE3, 126 PG11/FSMC_NCE4_2/ETH_MII_TX_EN/ETH_RMII_TX_EN, 127 PG12/FSMC_NE4/U6_RTS, 128 PG13/FSMC_A24/U6_CTS/ETH_MII_TXD0/ETH_RMII_TXD0, 129 PG14/FSMC_A25/U6_TX/ETH_MII_TXD1/ETH_RMII_TXD1, 130 VSS, 131 VDD, 132 PG15/U6_CTS/DCMI_D13, 133 PB3/JTDO/TRACESWO/TIM2_CH2/SPI1_SCK/SPI3_SCK/I2S3_CK, 134 PB4/JNTRST/TIM3_CH1/SPI1_MISO/SPI3_MISO/I2S3ext_SD, 135 PB5/TIM3_CH2/SPI1_MOSI/SPI3_MOSI/CAN2_RX/I2C1_SMBA/OTG_HS_ULPI_D7/ETH_PPS_OUT/DCMI_D10/I2S3_SD, 136 PB6/TIM4_CH1/U1_TX/CAN2_TX/I2C1_SCL/DCMI_D5, 137 PB7/TIM4_CH2/U1_RX/FSMC_NL/I2C1_SDA/DCMI_VSYNC, 138 BOOT0, 139 PB8/TIM4_CH3/TIM10_CH1/CAN1_RX/SDIO_D4/ETH_MII_TXD3/I2C1_SCL/DCMI_D6, 140 PB9/TIM4_CH4/TIM11_CH1/CAN1_TX/SDIO_D5/SPI2_NSS/I2C1_SDA/DCMI_D7/I2S2_WS, 141 PE0/TIM4_ETR/FSMC_NBL0/DCMI_D2, 142 PE1/FSMC_NBL1/DCMI_D3, 143 PDR_ON, 144 VDD

## SW6601
designator U?
footprint SOT23L-6P
pins: 1 DP, 2 GND, 3 FBO, 4 QC_EN, 5 VDD, 6 DM

## SW8120Q
designator U?
footprint QFN16_3x3x05P
pins: 1 GND, 2 GND, 3 GND, 4 TRX, 5 TX_EN, 6 RX_EN, 7 GND, 8 GND, 9 GND, 10 ANT, 11 GND, 12 GND, 13 GND, 14 VCC, 15 GND, 16 VCC

## SW-18010P
designator T?
footprint SW-18010P
pins: 1, 2

## SW-TH_MSK12C02
designator SW?
footprint SW-TH_MSK12C02
pins: 1, 2, 3, 4

## TC5020A
designator U?
footprint SSOP24-150mil
pins: 1 GND, 2 SDI, 3 CLK, 4 LE, 5 OUT0, 6 OUT1, 7 OUT2, 8 OUT3, 9 OUT4, 10 OUT5, 11 OUT6, 12 OUT7, 13 OUT8, 14 OUT9, 15 OUT10, 16 OUT11, 17 OUT12, 18 OUT13, 19 OUT14, 20 OUT15, 21 OE/, 22 SDO, 23 REXT, 24 VDD

## TCA9534A
designator U?
footprint TSSOP127P600-8N
pins: 1 A0, 2 A1, 3 A2, 4 P0, 5 P1, 6 P2, 7 P3, 8 GND, 9 P4, 10 P5, 11 P6, 12 P7, 13 ~{INT}, 14 SCL, 15 SDA, 16 VCC

## TF卡座
designator P?, comment TF
footprint TF-SMD_TF-15-15
pins: 1 DAT2, 2 CD/DAT3, 3 CMD, 4 VDD, 5 CLK, 6 VSS, 7 DAT0, 8 DAT1, 9 CD

## TF卡座_插拔式
designator P?, comment XKTF-005
footprint XKTF-005
pins: 1 DAT2, 2 CD/DAT3, 3 CMD, 4 VDD, 5 CLK, 6 VSS, 7 DAT0, 8 DAT1, 9 DET1, 10 DET2, 11 GND, 12 GND